# Altium integrated library ST Microcontroller 32-Bit STR9.IntLib: 18 symbols
Pins are listed as number, name and electrical type; pins without a type are passive.

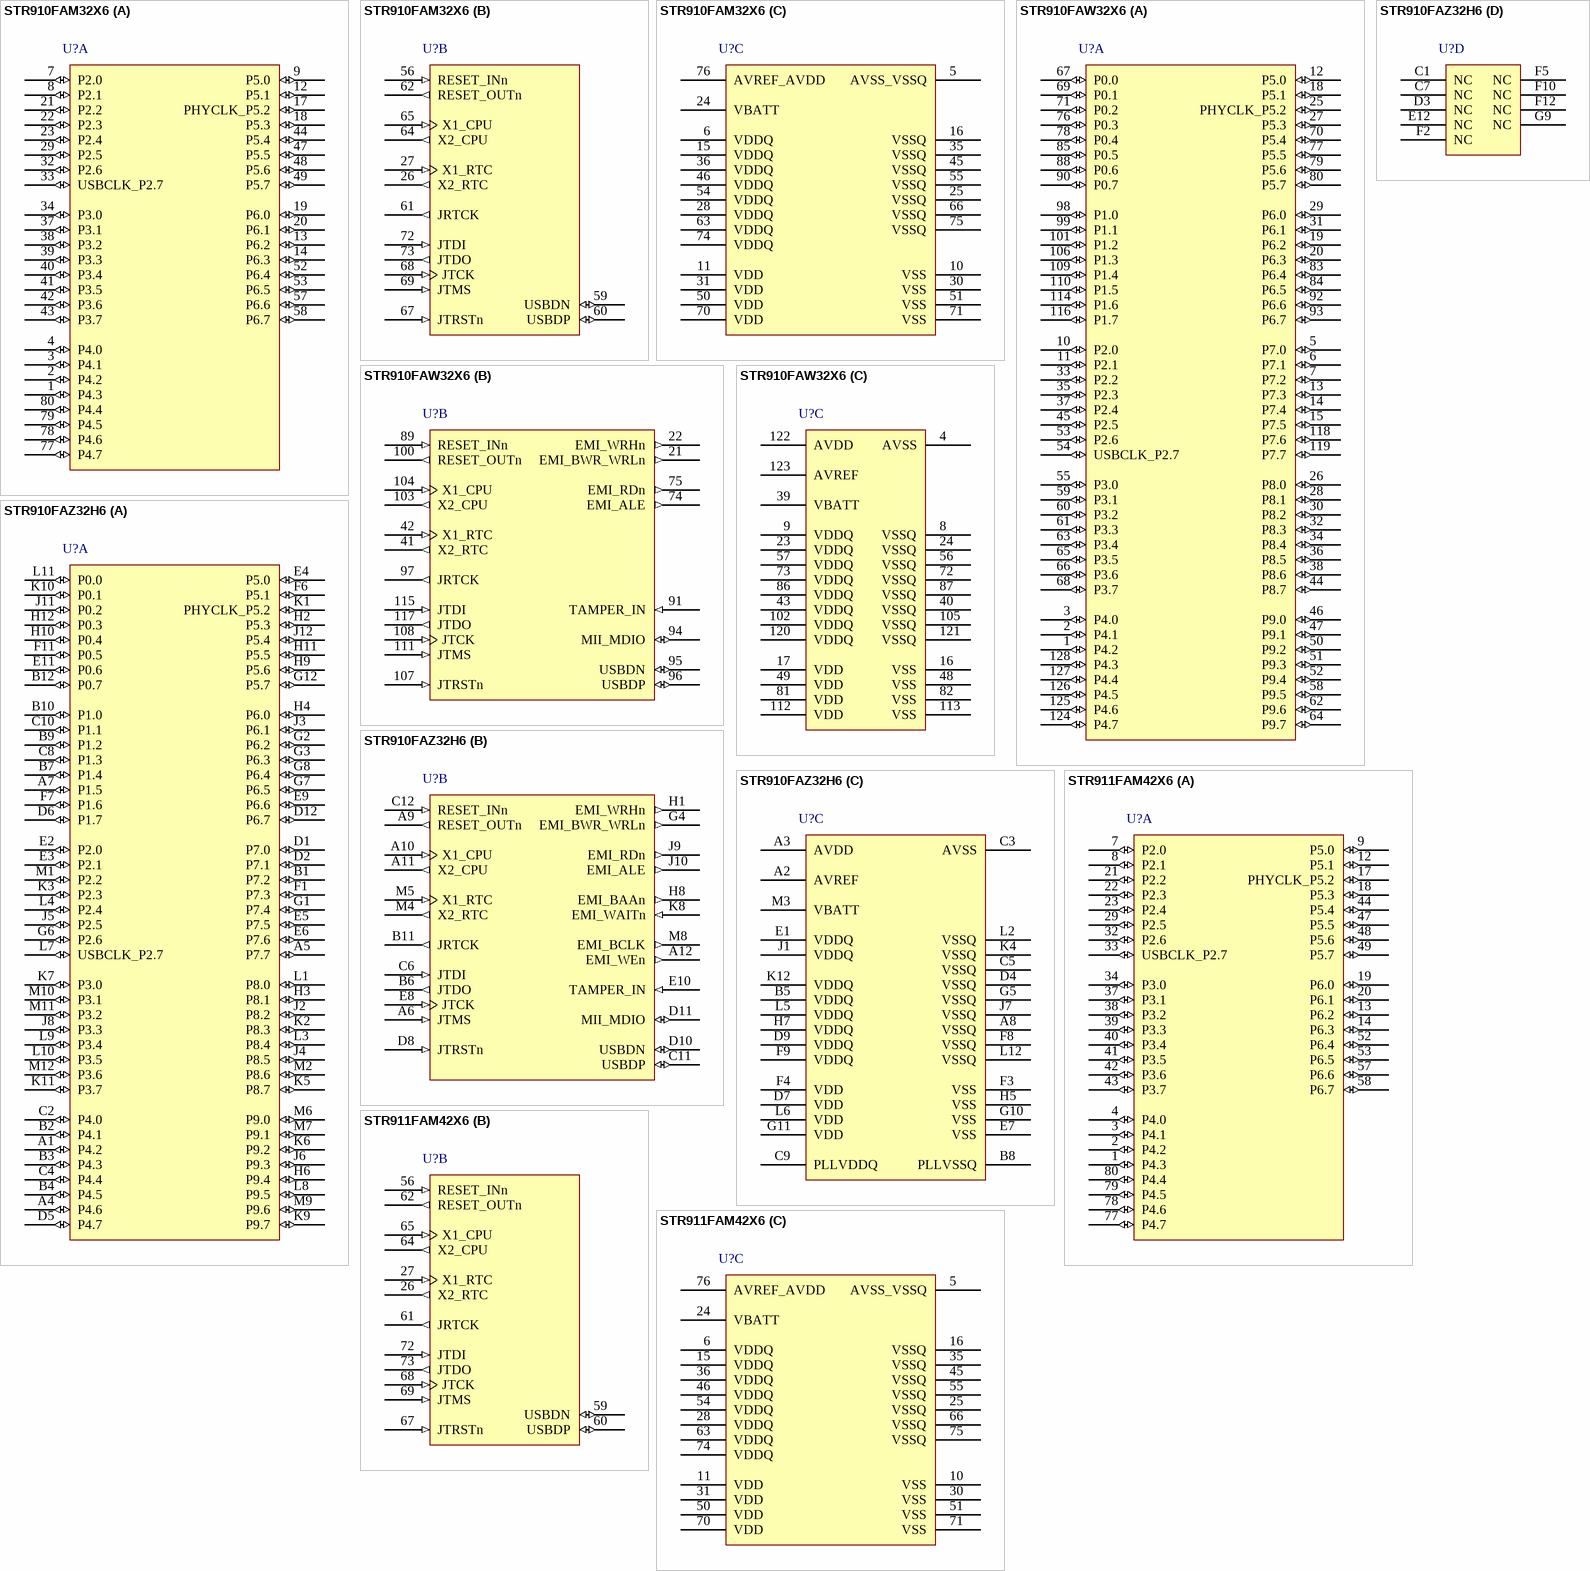
[diagram p0: symbols STR910FAM32X6 to STR911FAM42X6]

## STR910FAM32X6
designator U?
ARM966E-S 16/32-Bit Flash MCU with 256 + 32 Kbytes Flash, 64 Kbytes RAM, 100-pin LQFP, Industrial Temperature; Published: 30-May-2008; DatasheetVersion: rev2, Nov-2007; PackageVersion: Apr-2008; PackageReference: LQFP80; Publisher: Altium Limited; PackageDescription: 80-Pin Low-Profile Quad Flat Pack, 12 x 12 mm Body, 0.5 mm Pitch (LQFP80); ComponentLink1Description: Manufacturer Link; ComponentLink1URL: http://www.st.com/mcu/inchtml-pages-str9.html; ComponentLink2Description: Datasheet; ComponentLink2URL: http://www.st.com/stonline/products/literature/ds/13495.pdf
footprint LQFP80_N (Thin QFP, 80-Leads, Body 12x12mm, Pitch 0.5mm, IPC Medium Density)
footprint LQFP80_L (Thin QFP, 80-Leads, Body 12x12mm, Pitch 0.5mm, IPC High Density)
footprint LQFP80_M (Thin QFP, 80-Leads, Body 12x12mm, Pitch 0.5mm, IPC Low Density)
part A pins: 1 P4.3 (io), 2 P4.2 (io), 3 P4.1 (io), 4 P4.0 (io), 7 P2.0 (io), 8 P2.1 (io), 9 P5.0 (io), 12 P5.1 (io), 13 P6.2 (io), 14 P6.3 (io), 17 PHYCLK_P5.2 (io), 18 P5.3 (io), 19 P6.0 (io), 20 P6.1 (io), 21 P2.2 (io), 22 P2.3 (io), 23 P2.4 (io), 29 P2.5 (io), 32 P2.6 (io), 33 USBCLK_P2.7 (io), 34 P3.0 (io), 37 P3.1 (io), 38 P3.2 (io), 39 P3.3 (io), 40 P3.4 (io), 41 P3.5 (io), 42 P3.6 (io), 43 P3.7 (io), 44 P5.4 (io), 47 P5.5 (io), 48 P5.6 (io), 49 P5.7 (io), 52 P6.4 (io), 53 P6.5 (io), 57 P6.6 (io), 58 P6.7 (io), 77 P4.7 (io), 78 P4.6 (io), 79 P4.5 (io), 80 P4.4 (io)
part B pins: 26 X2_RTC (out), 27 X1_RTC (in), 56 RESET_INn (in), 59 USBDN (io), 60 USBDP (io), 61 JRTCK (out), 62 RESET_OUTn (out), 64 X2_CPU (out), 65 X1_CPU (in), 67 JTRSTn (in), 68 JTCK (in), 69 JTMS (in), 72 JTDI (in), 73 JTDO (out)
part C pins: 5 AVSS_VSSQ (power), 6 VDDQ (power), 10 VSS (power), 11 VDD (power), 15 VDDQ (power), 16 VSSQ (power), 24 VBATT (power), 25 VSSQ (power), 28 VDDQ (power), 30 VSS (power), 31 VDD (power), 35 VSSQ (power), 36 VDDQ (power), 45 VSSQ (power), 46 VDDQ (power), 50 VDD (power), 51 VSS (power), 54 VDDQ (power), 55 VSSQ (power), 63 VDDQ (power), 66 VSSQ (power), 70 VDD (power), 71 VSS (power), 74 VDDQ (power), 75 VSSQ (power), 76 AVREF_AVDD (power)

## STR910FAW32X6
designator U?
ARM966E-S 16/32-Bit Flash MCU with 256 + 32 Kbytes Flash, 64 Kbytes RAM, 100-pin LQFP, Industrial Temperature; Published: 30-May-2008; DatasheetVersion: rev2, Nov-2007; PackageVersion: Apr-2008; PackageReference: LQFP128; Publisher: Altium Limited; PackageDescription: 128-Pin Low Profile Quad Flat Pack, 14 x 14 x 1.6 mm Body (LQFP128); ComponentLink1Description: Manufacturer Link; ComponentLink1URL: http://www.st.com/mcu/inchtml-pages-str9.html; ComponentLink2Description: Datasheet; ComponentLink2URL: http://www.st.com/stonline/products/literature/ds/13495.pdf
footprint LQFP128_N (Thin QFP, 128-Leads, Body 14x14mm, Pitch 0.4mm, IPC Medium Density)
footprint LQFP128_L (Thin QFP, 128-Leads, Body 14x14mm, Pitch 0.4mm, IPC High Density)
footprint LQFP128_M (Thin QFP, 128-Leads, Body 14x14mm, Pitch 0.4mm, IPC Low Density)
part A pins: 1 P4.2 (io), 2 P4.1 (io), 3 P4.0 (io), 5 P7.0 (io), 6 P7.1 (io), 7 P7.2 (io), 10 P2.0 (io), 11 P2.1 (io), 12 P5.0 (io), 13 P7.3 (io), 14 P7.4 (io), 15 P7.5 (io), 18 P5.1 (io), 19 P6.2 (io), 20 P6.3 (io), 25 PHYCLK_P5.2 (io), 26 P8.0 (io), 27 P5.3 (io), 28 P8.1 (io), 29 P6.0 (io), 30 P8.2 (io), 31 P6.1 (io), 32 P8.3 (io), 33 P2.2 (io), 34 P8.4 (io), 35 P2.3 (io), 36 P8.5 (io), 37 P2.4 (io), 38 P8.6 (io), 44 P8.7 (io), 45 P2.5 (io), 46 P9.0 (io), 47 P9.1 (io), 50 P9.2 (io), 51 P9.3 (io), 52 P9.4 (io), 53 P2.6 (io), 54 USBCLK_P2.7 (io), 55 P3.0 (io), 58 P9.5 (io), 59 P3.1 (io), 60 P3.2 (io), 61 P3.3 (io), 62 P9.6 (io), 63 P3.4 (io), 64 P9.7 (io), 65 P3.5 (io), 66 P3.6 (io), 67 P0.0 (io), 68 P3.7 (io), 69 P0.1 (io), 70 P5.4 (io), 71 P0.2 (io), 76 P0.3 (io), 77 P5.5 (io), 78 P0.4 (io), 79 P5.6 (io), 80 P5.7 (io), 83 P6.4 (io), 84 P6.5 (io), 85 P0.5 (io), 88 P0.6 (io), 90 P0.7 (io), 92 P6.6 (io), 93 P6.7 (io), 98 P1.0 (io), 99 P1.1 (io), 101 P1.2 (io), 106 P1.3 (io), 109 P1.4 (io), 110 P1.5 (io), 114 P1.6 (io), 116 P1.7 (io), 118 P7.6 (io), 119 P7.7 (io), 124 P4.7 (io), 125 P4.6 (io), 126 P4.5 (io), 127 P4.4 (io), 128 P4.3 (io)
part B pins: 21 EMI_BWR_WRLn (out), 22 EMI_WRHn (out), 41 X2_RTC (out), 42 X1_RTC (in), 74 EMI_ALE (out), 75 EMI_RDn (out), 89 RESET_INn (in), 91 TAMPER_IN (in), 94 MII_MDIO (io), 95 USBDN (io), 96 USBDP (io), 97 JRTCK (out), 100 RESET_OUTn (out), 103 X2_CPU (out), 104 X1_CPU (in), 107 JTRSTn (in), 108 JTCK (in), 111 JTMS (in), 115 JTDI (in), 117 JTDO (out)
part C pins: 4 AVSS (power), 8 VSSQ (power), 9 VDDQ (power), 16 VSS (power), 17 VDD (power), 23 VDDQ (power), 24 VSSQ (power), 39 VBATT (power), 40 VSSQ (power), 43 VDDQ (power), 48 VSS (power), 49 VDD (power), 56 VSSQ (power), 57 VDDQ (power), 72 VSSQ (power), 73 VDDQ (power), 81 VDD (power), 82 VSS (power), 86 VDDQ (power), 87 VSSQ (power), 102 VDDQ (power), 105 VSSQ (power), 112 VDD (power), 113 VSS (power), 120 VDDQ (power), 121 VSSQ (power), 122 AVDD (power), 123 AVREF (power)

## STR910FAZ32H6
designator U?
ARM966E-S 16/32-Bit Flash MCU with 256 + 32 Kbytes Flash, 64 Kbytes RAM, 100-pin LQFP, Industrial Temperature; Published: 30-May-2008; DatasheetVersion: rev2, Nov-2007; PackageVersion: Apr-2008; PackageReference: LFBGA144; Publisher: Altium Limited; PackageDescription: 144-Ball Low Profile Fine Pitch BGA, 10 x 10 x 1.7 mm Body, 0.8 mm Pitch (LFBGA144); ComponentLink1Description: Manufacturer Link; ComponentLink1URL: http://www.st.com/mcu/inchtml-pages-str9.html; ComponentLink2Description: Datasheet; ComponentLink2URL: http://www.st.com/stonline/products/literature/ds/13495.pdf
footprint LFBGA144 (BGA, 144-Leads, Body 10x10mm, Pitch 0.8mm)
part A pins: A1 P4.2 (io), A4 P4.6 (io), A5 P7.7 (io), A7 P1.5 (io), B1 P7.2 (io), B2 P4.1 (io), B3 P4.3 (io), B4 P4.5 (io), B7 P1.4 (io), B9 P1.2 (io), B10 P1.0 (io), B12 P0.7 (io), C2 P4.0 (io), C4 P4.4 (io), C8 P1.3 (io), C10 P1.1 (io), D1 P7.0 (io), D2 P7.1 (io), D5 P4.7 (io), D6 P1.7 (io), D12 P6.7 (io), E2 P2.0 (io), E3 P2.1 (io), E4 P5.0 (io), E5 P7.5 (io), E6 P7.6 (io), E9 P6.6 (io), E11 P0.6 (io), F1 P7.3 (io), F6 P5.1 (io), F7 P1.6 (io), F11 P0.5 (io), G1 P7.4 (io), G2 P6.2 (io), G3 P6.3 (io), G6 P2.6 (io), G7 P6.5 (io), G8 P6.4 (io), G12 P5.7 (io), H2 P5.3 (io), H3 P8.1 (io), H4 P6.0 (io), H6 P9.4 (io), H9 P5.6 (io), H10 P0.4 (io), H11 P5.5 (io), H12 P0.3 (io), J2 P8.2 (io), J3 P6.1 (io), J4 P8.5 (io), J5 P2.5 (io), J6 P9.3 (io), J8 P3.3 (io), J11 P0.2 (io), J12 P5.4 (io), K1 PHYCLK_P5.2 (io), K2 P8.3 (io), K3 P2.3 (io), K5 P8.7 (io), K6 P9.2 (io), K7 P3.0 (io), K9 P9.7 (io), K10 P0.1 (io), K11 P3.7 (io), L1 P8.0 (io), L3 P8.4 (io), L4 P2.4 (io), L7 USBCLK_P2.7 (io), L8 P9.5 (io), L9 P3.4 (io), L10 P3.5 (io), L11 P0.0 (io), M1 P2.2 (io), M2 P8.6 (io), M6 P9.0 (io), M7 P9.1 (io), M9 P9.6 (io), M10 P3.1 (io), M11 P3.2 (io), M12 P3.6 (io)
part B pins: A6 JTMS (in), A9 RESET_OUTn (out), A10 X1_CPU (in), A11 X2_CPU (out), A12 EMI_WEn (out), B6 JTDO (out), B11 JRTCK (out), C6 JTDI (in), C11 USBDP (io), C12 RESET_INn (in), D8 JTRSTn (in), D10 USBDN (io), D11 MII_MDIO (io), E8 JTCK (in), E10 TAMPER_IN (in), G4 EMI_BWR_WRLn (out), H1 EMI_WRHn (out), H8 EMI_BAAn (out), J9 EMI_RDn (out), J10 EMI_ALE (out), K8 EMI_WAITn (in), M4 X2_RTC (out), M5 X1_RTC (in), M8 EMI_BCLK (out)
part C pins: A2 AVREF (power), A3 AVDD (power), A8 VSSQ (power), B5 VDDQ (power), B8 PLLVSSQ (power), C3 AVSS (power), C5 VSSQ (power), C9 PLLVDDQ (power), D4 VSSQ (power), D7 VDD (power), D9 VDDQ (power), E1 VDDQ (power), E7 VSS (power), F3 VSS (power), F4 VDD (power), F8 VSSQ (power), F9 VDDQ (power), G5 VSSQ (power), G10 VSS (power), G11 VDD (power), H5 VSS (power), H7 VDDQ (power), J1 VDDQ (power), J7 VSSQ (power), K4 VSSQ (power), K12 VDDQ (power), L2 VSSQ (power), L5 VDDQ (power), L6 VDD (power), L12 VSSQ (power), M3 VBATT (power)
part D pins: C1 NC, C7 NC, D3 NC, E12 NC, F2 NC, F5 NC, F10 NC, F12 NC, G9 NC

## STR911FAM42X6
designator U?
ARM966E-S 16/32-Bit Flash MCU with 256 + 32 Kbytes Flash, 96 Kbytes RAM, 100-pin LQFP, Industrial Temperature; Published: 30-May-2008; DatasheetVersion: rev2, Nov-2007; PackageVersion: Apr-2008; PackageReference: LQFP80; Publisher: Altium Limited; PackageDescription: 80-Pin Low-Profile Quad Flat Pack, 12 x 12 mm Body, 0.5 mm Pitch (LQFP80); ComponentLink1Description: Manufacturer Link; ComponentLink1URL: http://www.st.com/mcu/inchtml-pages-str9.html; ComponentLink2Description: Datasheet; ComponentLink2URL: http://www.st.com/stonline/products/literature/ds/13495.pdf
footprint LQFP80_N (Thin QFP, 80-Leads, Body 12x12mm, Pitch 0.5mm, IPC Medium Density)
footprint LQFP80_L (Thin QFP, 80-Leads, Body 12x12mm, Pitch 0.5mm, IPC High Density)
footprint LQFP80_M (Thin QFP, 80-Leads, Body 12x12mm, Pitch 0.5mm, IPC Low Density)
part A pins: 1 P4.3 (io), 2 P4.2 (io), 3 P4.1 (io), 4 P4.0 (io), 7 P2.0 (io), 8 P2.1 (io), 9 P5.0 (io), 12 P5.1 (io), 13 P6.2 (io), 14 P6.3 (io), 17 PHYCLK_P5.2 (io), 18 P5.3 (io), 19 P6.0 (io), 20 P6.1 (io), 21 P2.2 (io), 22 P2.3 (io), 23 P2.4 (io), 29 P2.5 (io), 32 P2.6 (io), 33 USBCLK_P2.7 (io), 34 P3.0 (io), 37 P3.1 (io), 38 P3.2 (io), 39 P3.3 (io), 40 P3.4 (io), 41 P3.5 (io), 42 P3.6 (io), 43 P3.7 (io), 44 P5.4 (io), 47 P5.5 (io), 48 P5.6 (io), 49 P5.7 (io), 52 P6.4 (io), 53 P6.5 (io), 57 P6.6 (io), 58 P6.7 (io), 77 P4.7 (io), 78 P4.6 (io), 79 P4.5 (io), 80 P4.4 (io)
part B pins: 26 X2_RTC (out), 27 X1_RTC (in), 56 RESET_INn (in), 59 USBDN (io), 60 USBDP (io), 61 JRTCK (out), 62 RESET_OUTn (out), 64 X2_CPU (out), 65 X1_CPU (in), 67 JTRSTn (in), 68 JTCK (in), 69 JTMS (in), 72 JTDI (in), 73 JTDO (out)
part C pins: 5 AVSS_VSSQ (power), 6 VDDQ (power), 10 VSS (power), 11 VDD (power), 15 VDDQ (power), 16 VSSQ (power), 24 VBATT (power), 25 VSSQ (power), 28 VDDQ (power), 30 VSS (power), 31 VDD (power), 35 VSSQ (power), 36 VDDQ (power), 45 VSSQ (power), 46 VDDQ (power), 50 VDD (power), 51 VSS (power), 54 VDDQ (power), 55 VSSQ (power), 63 VDDQ (power), 66 VSSQ (power), 70 VDD (power), 71 VSS (power), 74 VDDQ (power), 75 VSSQ (power), 76 AVREF_AVDD (power)

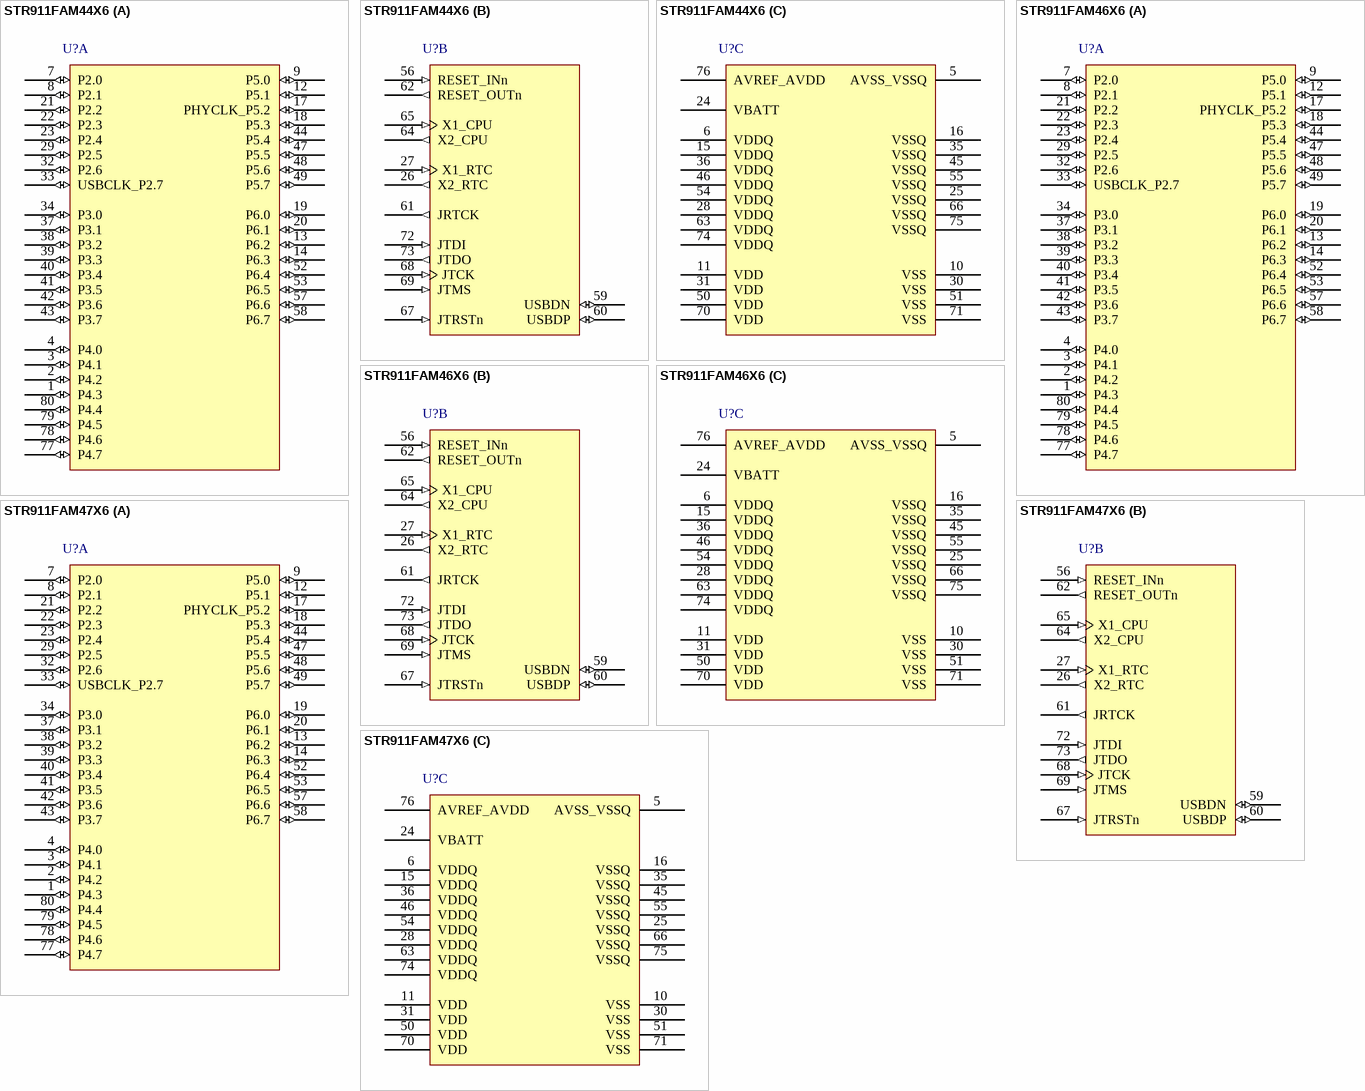
[diagram p1: symbols STR911FAM44X6 to STR911FAM47X6]

## STR911FAM44X6
designator U?
ARM966E-S 16/32-Bit Flash MCU with 512 + 32 Kbytes Flash, 96 Kbytes RAM, 100-pin LQFP, Industrial Temperature; Published: 30-May-2008; DatasheetVersion: rev2, Nov-2007; PackageVersion: Apr-2008; PackageReference: LQFP80; Publisher: Altium Limited; PackageDescription: 80-Pin Low-Profile Quad Flat Pack, 12 x 12 mm Body, 0.5 mm Pitch (LQFP80); ComponentLink1Description: Manufacturer Link; ComponentLink1URL: http://www.st.com/mcu/inchtml-pages-str9.html; ComponentLink2Description: Datasheet; ComponentLink2URL: http://www.st.com/stonline/products/literature/ds/13495.pdf
footprint LQFP80_N (Thin QFP, 80-Leads, Body 12x12mm, Pitch 0.5mm, IPC Medium Density)
footprint LQFP80_L (Thin QFP, 80-Leads, Body 12x12mm, Pitch 0.5mm, IPC High Density)
footprint LQFP80_M (Thin QFP, 80-Leads, Body 12x12mm, Pitch 0.5mm, IPC Low Density)
part A pins: 1 P4.3 (io), 2 P4.2 (io), 3 P4.1 (io), 4 P4.0 (io), 7 P2.0 (io), 8 P2.1 (io), 9 P5.0 (io), 12 P5.1 (io), 13 P6.2 (io), 14 P6.3 (io), 17 PHYCLK_P5.2 (io), 18 P5.3 (io), 19 P6.0 (io), 20 P6.1 (io), 21 P2.2 (io), 22 P2.3 (io), 23 P2.4 (io), 29 P2.5 (io), 32 P2.6 (io), 33 USBCLK_P2.7 (io), 34 P3.0 (io), 37 P3.1 (io), 38 P3.2 (io), 39 P3.3 (io), 40 P3.4 (io), 41 P3.5 (io), 42 P3.6 (io), 43 P3.7 (io), 44 P5.4 (io), 47 P5.5 (io), 48 P5.6 (io), 49 P5.7 (io), 52 P6.4 (io), 53 P6.5 (io), 57 P6.6 (io), 58 P6.7 (io), 77 P4.7 (io), 78 P4.6 (io), 79 P4.5 (io), 80 P4.4 (io)
part B pins: 26 X2_RTC (out), 27 X1_RTC (in), 56 RESET_INn (in), 59 USBDN (io), 60 USBDP (io), 61 JRTCK (out), 62 RESET_OUTn (out), 64 X2_CPU (out), 65 X1_CPU (in), 67 JTRSTn (in), 68 JTCK (in), 69 JTMS (in), 72 JTDI (in), 73 JTDO (out)
part C pins: 5 AVSS_VSSQ (power), 6 VDDQ (power), 10 VSS (power), 11 VDD (power), 15 VDDQ (power), 16 VSSQ (power), 24 VBATT (power), 25 VSSQ (power), 28 VDDQ (power), 30 VSS (power), 31 VDD (power), 35 VSSQ (power), 36 VDDQ (power), 45 VSSQ (power), 46 VDDQ (power), 50 VDD (power), 51 VSS (power), 54 VDDQ (power), 55 VSSQ (power), 63 VDDQ (power), 66 VSSQ (power), 70 VDD (power), 71 VSS (power), 74 VDDQ (power), 75 VSSQ (power), 76 AVREF_AVDD (power)

## STR911FAM46X6
designator U?
ARM966E-S 16/32-Bit Flash MCU with 1024 + 128 Kbytes Flash, 96 Kbytes RAM, 100-pin LQFP, Industrial Temperature; Published: 30-May-2008; DatasheetVersion: rev2, Apr-2008; PackageVersion: Apr-2008; PackageReference: LQFP80; Publisher: Altium Limited; PackageDescription: 80-Pin Low-Profile Quad Flat Pack, 12 x 12 mm Body, 0.5 mm Pitch (LQFP80); ComponentLink1Description: Manufacturer Link; ComponentLink1URL: http://www.st.com/mcu/inchtml-pages-str9.html; ComponentLink2Description: Datasheet; ComponentLink2URL: http://www.st.com/stonline/products/literature/ds/14195.pdf
footprint LQFP80_N (Thin QFP, 80-Leads, Body 12x12mm, Pitch 0.5mm, IPC Medium Density)
footprint LQFP80_L (Thin QFP, 80-Leads, Body 12x12mm, Pitch 0.5mm, IPC High Density)
footprint LQFP80_M (Thin QFP, 80-Leads, Body 12x12mm, Pitch 0.5mm, IPC Low Density)
part A pins: 1 P4.3 (io), 2 P4.2 (io), 3 P4.1 (io), 4 P4.0 (io), 7 P2.0 (io), 8 P2.1 (io), 9 P5.0 (io), 12 P5.1 (io), 13 P6.2 (io), 14 P6.3 (io), 17 PHYCLK_P5.2 (io), 18 P5.3 (io), 19 P6.0 (io), 20 P6.1 (io), 21 P2.2 (io), 22 P2.3 (io), 23 P2.4 (io), 29 P2.5 (io), 32 P2.6 (io), 33 USBCLK_P2.7 (io), 34 P3.0 (io), 37 P3.1 (io), 38 P3.2 (io), 39 P3.3 (io), 40 P3.4 (io), 41 P3.5 (io), 42 P3.6 (io), 43 P3.7 (io), 44 P5.4 (io), 47 P5.5 (io), 48 P5.6 (io), 49 P5.7 (io), 52 P6.4 (io), 53 P6.5 (io), 57 P6.6 (io), 58 P6.7 (io), 77 P4.7 (io), 78 P4.6 (io), 79 P4.5 (io), 80 P4.4 (io)
part B pins: 26 X2_RTC (out), 27 X1_RTC (in), 56 RESET_INn (in), 59 USBDN (io), 60 USBDP (io), 61 JRTCK (out), 62 RESET_OUTn (out), 64 X2_CPU (out), 65 X1_CPU (in), 67 JTRSTn (in), 68 JTCK (in), 69 JTMS (in), 72 JTDI (in), 73 JTDO (out)
part C pins: 5 AVSS_VSSQ (power), 6 VDDQ (power), 10 VSS (power), 11 VDD (power), 15 VDDQ (power), 16 VSSQ (power), 24 VBATT (power), 25 VSSQ (power), 28 VDDQ (power), 30 VSS (power), 31 VDD (power), 35 VSSQ (power), 36 VDDQ (power), 45 VSSQ (power), 46 VDDQ (power), 50 VDD (power), 51 VSS (power), 54 VDDQ (power), 55 VSSQ (power), 63 VDDQ (power), 66 VSSQ (power), 70 VDD (power), 71 VSS (power), 74 VDDQ (power), 75 VSSQ (power), 76 AVREF_AVDD (power)

## STR911FAM47X6
designator U?
ARM966E-S 16/32-Bit Flash MCU with 2048 + 128 Kbytes Flash, 96 Kbytes RAM, 100-pin LQFP, Industrial Temperature; Published: 30-May-2008; DatasheetVersion: rev2, Apr-2008; PackageVersion: Apr-2008; PackageReference: LQFP80; Publisher: Altium Limited; PackageDescription: 80-Pin Low-Profile Quad Flat Pack, 12 x 12 mm Body, 0.5 mm Pitch (LQFP80); ComponentLink1Description: Manufacturer Link; ComponentLink1URL: http://www.st.com/mcu/inchtml-pages-str9.html; ComponentLink2Description: Datasheet; ComponentLink2URL: http://www.st.com/stonline/products/literature/ds/14195.pdf
footprint LQFP80_N (Thin QFP, 80-Leads, Body 12x12mm, Pitch 0.5mm, IPC Medium Density)
footprint LQFP80_L (Thin QFP, 80-Leads, Body 12x12mm, Pitch 0.5mm, IPC High Density)
footprint LQFP80_M (Thin QFP, 80-Leads, Body 12x12mm, Pitch 0.5mm, IPC Low Density)
part A pins: 1 P4.3 (io), 2 P4.2 (io), 3 P4.1 (io), 4 P4.0 (io), 7 P2.0 (io), 8 P2.1 (io), 9 P5.0 (io), 12 P5.1 (io), 13 P6.2 (io), 14 P6.3 (io), 17 PHYCLK_P5.2 (io), 18 P5.3 (io), 19 P6.0 (io), 20 P6.1 (io), 21 P2.2 (io), 22 P2.3 (io), 23 P2.4 (io), 29 P2.5 (io), 32 P2.6 (io), 33 USBCLK_P2.7 (io), 34 P3.0 (io), 37 P3.1 (io), 38 P3.2 (io), 39 P3.3 (io), 40 P3.4 (io), 41 P3.5 (io), 42 P3.6 (io), 43 P3.7 (io), 44 P5.4 (io), 47 P5.5 (io), 48 P5.6 (io), 49 P5.7 (io), 52 P6.4 (io), 53 P6.5 (io), 57 P6.6 (io), 58 P6.7 (io), 77 P4.7 (io), 78 P4.6 (io), 79 P4.5 (io), 80 P4.4 (io)
part B pins: 26 X2_RTC (out), 27 X1_RTC (in), 56 RESET_INn (in), 59 USBDN (io), 60 USBDP (io), 61 JRTCK (out), 62 RESET_OUTn (out), 64 X2_CPU (out), 65 X1_CPU (in), 67 JTRSTn (in), 68 JTCK (in), 69 JTMS (in), 72 JTDI (in), 73 JTDO (out)
part C pins: 5 AVSS_VSSQ (power), 6 VDDQ (power), 10 VSS (power), 11 VDD (power), 15 VDDQ (power), 16 VSSQ (power), 24 VBATT (power), 25 VSSQ (power), 28 VDDQ (power), 30 VSS (power), 31 VDD (power), 35 VSSQ (power), 36 VDDQ (power), 45 VSSQ (power), 46 VDDQ (power), 50 VDD (power), 51 VSS (power), 54 VDDQ (power), 55 VSSQ (power), 63 VDDQ (power), 66 VSSQ (power), 70 VDD (power), 71 VSS (power), 74 VDDQ (power), 75 VSSQ (power), 76 AVREF_AVDD (power)

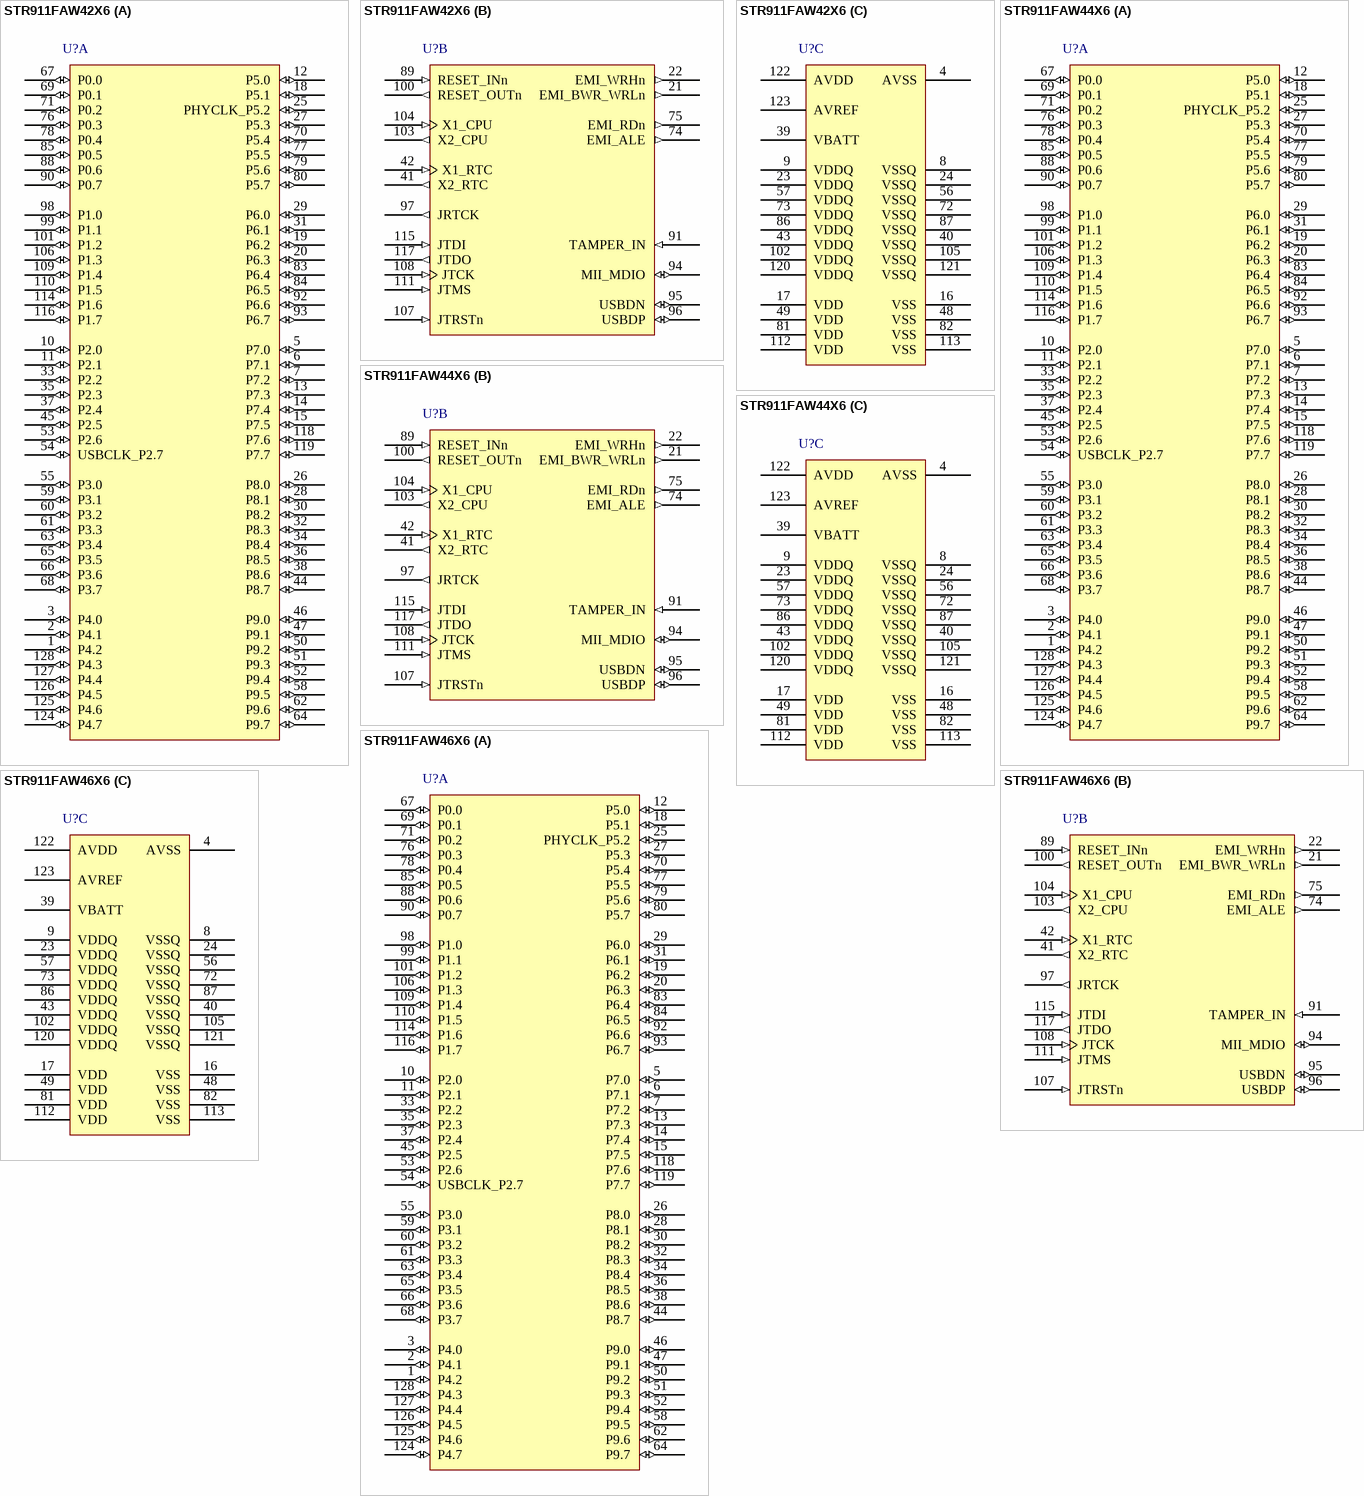
[diagram p2: symbols STR911FAW42X6 to STR911FAW46X6]

## STR911FAW42X6
designator U?
ARM966E-S 16/32-Bit Flash MCU with 256 + 32 Kbytes Flash, 96 Kbytes RAM, 100-pin LQFP, Industrial Temperature; Published: 30-May-2008; DatasheetVersion: rev2, Nov-2007; PackageVersion: Apr-2008; PackageReference: LQFP128; Publisher: Altium Limited; PackageDescription: 128-Pin Low Profile Quad Flat Pack, 14 x 14 x 1.6 mm Body (LQFP128); ComponentLink1Description: Manufacturer Link; ComponentLink1URL: http://www.st.com/mcu/inchtml-pages-str9.html; ComponentLink2Description: Datasheet; ComponentLink2URL: http://www.st.com/stonline/products/literature/ds/13495.pdf
footprint LQFP128_N (Thin QFP, 128-Leads, Body 14x14mm, Pitch 0.4mm, IPC Medium Density)
footprint LQFP128_L (Thin QFP, 128-Leads, Body 14x14mm, Pitch 0.4mm, IPC High Density)
footprint LQFP128_M (Thin QFP, 128-Leads, Body 14x14mm, Pitch 0.4mm, IPC Low Density)
part A pins: 1 P4.2 (io), 2 P4.1 (io), 3 P4.0 (io), 5 P7.0 (io), 6 P7.1 (io), 7 P7.2 (io), 10 P2.0 (io), 11 P2.1 (io), 12 P5.0 (io), 13 P7.3 (io), 14 P7.4 (io), 15 P7.5 (io), 18 P5.1 (io), 19 P6.2 (io), 20 P6.3 (io), 25 PHYCLK_P5.2 (io), 26 P8.0 (io), 27 P5.3 (io), 28 P8.1 (io), 29 P6.0 (io), 30 P8.2 (io), 31 P6.1 (io), 32 P8.3 (io), 33 P2.2 (io), 34 P8.4 (io), 35 P2.3 (io), 36 P8.5 (io), 37 P2.4 (io), 38 P8.6 (io), 44 P8.7 (io), 45 P2.5 (io), 46 P9.0 (io), 47 P9.1 (io), 50 P9.2 (io), 51 P9.3 (io), 52 P9.4 (io), 53 P2.6 (io), 54 USBCLK_P2.7 (io), 55 P3.0 (io), 58 P9.5 (io), 59 P3.1 (io), 60 P3.2 (io), 61 P3.3 (io), 62 P9.6 (io), 63 P3.4 (io), 64 P9.7 (io), 65 P3.5 (io), 66 P3.6 (io), 67 P0.0 (io), 68 P3.7 (io), 69 P0.1 (io), 70 P5.4 (io), 71 P0.2 (io), 76 P0.3 (io), 77 P5.5 (io), 78 P0.4 (io), 79 P5.6 (io), 80 P5.7 (io), 83 P6.4 (io), 84 P6.5 (io), 85 P0.5 (io), 88 P0.6 (io), 90 P0.7 (io), 92 P6.6 (io), 93 P6.7 (io), 98 P1.0 (io), 99 P1.1 (io), 101 P1.2 (io), 106 P1.3 (io), 109 P1.4 (io), 110 P1.5 (io), 114 P1.6 (io), 116 P1.7 (io), 118 P7.6 (io), 119 P7.7 (io), 124 P4.7 (io), 125 P4.6 (io), 126 P4.5 (io), 127 P4.4 (io), 128 P4.3 (io)
part B pins: 21 EMI_BWR_WRLn (out), 22 EMI_WRHn (out), 41 X2_RTC (out), 42 X1_RTC (in), 74 EMI_ALE (out), 75 EMI_RDn (out), 89 RESET_INn (in), 91 TAMPER_IN (in), 94 MII_MDIO (io), 95 USBDN (io), 96 USBDP (io), 97 JRTCK (out), 100 RESET_OUTn (out), 103 X2_CPU (out), 104 X1_CPU (in), 107 JTRSTn (in), 108 JTCK (in), 111 JTMS (in), 115 JTDI (in), 117 JTDO (out)
part C pins: 4 AVSS (power), 8 VSSQ (power), 9 VDDQ (power), 16 VSS (power), 17 VDD (power), 23 VDDQ (power), 24 VSSQ (power), 39 VBATT (power), 40 VSSQ (power), 43 VDDQ (power), 48 VSS (power), 49 VDD (power), 56 VSSQ (power), 57 VDDQ (power), 72 VSSQ (power), 73 VDDQ (power), 81 VDD (power), 82 VSS (power), 86 VDDQ (power), 87 VSSQ (power), 102 VDDQ (power), 105 VSSQ (power), 112 VDD (power), 113 VSS (power), 120 VDDQ (power), 121 VSSQ (power), 122 AVDD (power), 123 AVREF (power)

## STR911FAW44X6
designator U?
ARM966E-S 16/32-Bit Flash MCU with 512 + 32 Kbytes Flash, 96 Kbytes RAM, 100-pin LQFP, Industrial Temperature; Published: 30-May-2008; DatasheetVersion: rev2, Nov-2007; PackageVersion: Apr-2008; PackageReference: LQFP128; Publisher: Altium Limited; PackageDescription: 128-Pin Low Profile Quad Flat Pack, 14 x 14 x 1.6 mm Body (LQFP128); ComponentLink1Description: Manufacturer Link; ComponentLink1URL: http://www.st.com/mcu/inchtml-pages-str9.html; ComponentLink2Description: Datasheet; ComponentLink2URL: http://www.st.com/stonline/products/literature/ds/13495.pdf
footprint LQFP128_N (Thin QFP, 128-Leads, Body 14x14mm, Pitch 0.4mm, IPC Medium Density)
footprint LQFP128_L (Thin QFP, 128-Leads, Body 14x14mm, Pitch 0.4mm, IPC High Density)
footprint LQFP128_M (Thin QFP, 128-Leads, Body 14x14mm, Pitch 0.4mm, IPC Low Density)
part A pins: 1 P4.2 (io), 2 P4.1 (io), 3 P4.0 (io), 5 P7.0 (io), 6 P7.1 (io), 7 P7.2 (io), 10 P2.0 (io), 11 P2.1 (io), 12 P5.0 (io), 13 P7.3 (io), 14 P7.4 (io), 15 P7.5 (io), 18 P5.1 (io), 19 P6.2 (io), 20 P6.3 (io), 25 PHYCLK_P5.2 (io), 26 P8.0 (io), 27 P5.3 (io), 28 P8.1 (io), 29 P6.0 (io), 30 P8.2 (io), 31 P6.1 (io), 32 P8.3 (io), 33 P2.2 (io), 34 P8.4 (io), 35 P2.3 (io), 36 P8.5 (io), 37 P2.4 (io), 38 P8.6 (io), 44 P8.7 (io), 45 P2.5 (io), 46 P9.0 (io), 47 P9.1 (io), 50 P9.2 (io), 51 P9.3 (io), 52 P9.4 (io), 53 P2.6 (io), 54 USBCLK_P2.7 (io), 55 P3.0 (io), 58 P9.5 (io), 59 P3.1 (io), 60 P3.2 (io), 61 P3.3 (io), 62 P9.6 (io), 63 P3.4 (io), 64 P9.7 (io), 65 P3.5 (io), 66 P3.6 (io), 67 P0.0 (io), 68 P3.7 (io), 69 P0.1 (io), 70 P5.4 (io), 71 P0.2 (io), 76 P0.3 (io), 77 P5.5 (io), 78 P0.4 (io), 79 P5.6 (io), 80 P5.7 (io), 83 P6.4 (io), 84 P6.5 (io), 85 P0.5 (io), 88 P0.6 (io), 90 P0.7 (io), 92 P6.6 (io), 93 P6.7 (io), 98 P1.0 (io), 99 P1.1 (io), 101 P1.2 (io), 106 P1.3 (io), 109 P1.4 (io), 110 P1.5 (io), 114 P1.6 (io), 116 P1.7 (io), 118 P7.6 (io), 119 P7.7 (io), 124 P4.7 (io), 125 P4.6 (io), 126 P4.5 (io), 127 P4.4 (io), 128 P4.3 (io)
part B pins: 21 EMI_BWR_WRLn (out), 22 EMI_WRHn (out), 41 X2_RTC (out), 42 X1_RTC (in), 74 EMI_ALE (out), 75 EMI_RDn (out), 89 RESET_INn (in), 91 TAMPER_IN (in), 94 MII_MDIO (io), 95 USBDN (io), 96 USBDP (io), 97 JRTCK (out), 100 RESET_OUTn (out), 103 X2_CPU (out), 104 X1_CPU (in), 107 JTRSTn (in), 108 JTCK (in), 111 JTMS (in), 115 JTDI (in), 117 JTDO (out)
part C pins: 4 AVSS (power), 8 VSSQ (power), 9 VDDQ (power), 16 VSS (power), 17 VDD (power), 23 VDDQ (power), 24 VSSQ (power), 39 VBATT (power), 40 VSSQ (power), 43 VDDQ (power), 48 VSS (power), 49 VDD (power), 56 VSSQ (power), 57 VDDQ (power), 72 VSSQ (power), 73 VDDQ (power), 81 VDD (power), 82 VSS (power), 86 VDDQ (power), 87 VSSQ (power), 102 VDDQ (power), 105 VSSQ (power), 112 VDD (power), 113 VSS (power), 120 VDDQ (power), 121 VSSQ (power), 122 AVDD (power), 123 AVREF (power)

## STR911FAW46X6
designator U?
ARM966E-S 16/32-Bit Flash MCU with 1024 + 128 Kbytes Flash, 96 Kbytes RAM, 100-pin LQFP, Industrial Temperature; Published: 30-May-2008; DatasheetVersion: rev2, Apr-2008; PackageVersion: Apr-2008; PackageReference: LQFP128; Publisher: Altium Limited; PackageDescription: 128-Pin Low Profile Quad Flat Pack, 14 x 14 x 1.6 mm Body (LQFP128); ComponentLink1Description: Manufacturer Link; ComponentLink1URL: http://www.st.com/mcu/inchtml-pages-str9.html; ComponentLink2Description: Datasheet; ComponentLink2URL: http://www.st.com/stonline/products/literature/ds/14195.pdf
footprint LQFP128_N (Thin QFP, 128-Leads, Body 14x14mm, Pitch 0.4mm, IPC Medium Density)
footprint LQFP128_L (Thin QFP, 128-Leads, Body 14x14mm, Pitch 0.4mm, IPC High Density)
footprint LQFP128_M (Thin QFP, 128-Leads, Body 14x14mm, Pitch 0.4mm, IPC Low Density)
part A pins: 1 P4.2 (io), 2 P4.1 (io), 3 P4.0 (io), 5 P7.0 (io), 6 P7.1 (io), 7 P7.2 (io), 10 P2.0 (io), 11 P2.1 (io), 12 P5.0 (io), 13 P7.3 (io), 14 P7.4 (io), 15 P7.5 (io), 18 P5.1 (io), 19 P6.2 (io), 20 P6.3 (io), 25 PHYCLK_P5.2 (io), 26 P8.0 (io), 27 P5.3 (io), 28 P8.1 (io), 29 P6.0 (io), 30 P8.2 (io), 31 P6.1 (io), 32 P8.3 (io), 33 P2.2 (io), 34 P8.4 (io), 35 P2.3 (io), 36 P8.5 (io), 37 P2.4 (io), 38 P8.6 (io), 44 P8.7 (io), 45 P2.5 (io), 46 P9.0 (io), 47 P9.1 (io), 50 P9.2 (io), 51 P9.3 (io), 52 P9.4 (io), 53 P2.6 (io), 54 USBCLK_P2.7 (io), 55 P3.0 (io), 58 P9.5 (io), 59 P3.1 (io), 60 P3.2 (io), 61 P3.3 (io), 62 P9.6 (io), 63 P3.4 (io), 64 P9.7 (io), 65 P3.5 (io), 66 P3.6 (io), 67 P0.0 (io), 68 P3.7 (io), 69 P0.1 (io), 70 P5.4 (io), 71 P0.2 (io), 76 P0.3 (io), 77 P5.5 (io), 78 P0.4 (io), 79 P5.6 (io), 80 P5.7 (io), 83 P6.4 (io), 84 P6.5 (io), 85 P0.5 (io), 88 P0.6 (io), 90 P0.7 (io), 92 P6.6 (io), 93 P6.7 (io), 98 P1.0 (io), 99 P1.1 (io), 101 P1.2 (io), 106 P1.3 (io), 109 P1.4 (io), 110 P1.5 (io), 114 P1.6 (io), 116 P1.7 (io), 118 P7.6 (io), 119 P7.7 (io), 124 P4.7 (io), 125 P4.6 (io), 126 P4.5 (io), 127 P4.4 (io), 128 P4.3 (io)
part B pins: 21 EMI_BWR_WRLn (out), 22 EMI_WRHn (out), 41 X2_RTC (out), 42 X1_RTC (in), 74 EMI_ALE (out), 75 EMI_RDn (out), 89 RESET_INn (in), 91 TAMPER_IN (in), 94 MII_MDIO (io), 95 USBDN (io), 96 USBDP (io), 97 JRTCK (out), 100 RESET_OUTn (out), 103 X2_CPU (out), 104 X1_CPU (in), 107 JTRSTn (in), 108 JTCK (in), 111 JTMS (in), 115 JTDI (in), 117 JTDO (out)
part C pins: 4 AVSS (power), 8 VSSQ (power), 9 VDDQ (power), 16 VSS (power), 17 VDD (power), 23 VDDQ (power), 24 VSSQ (power), 39 VBATT (power), 40 VSSQ (power), 43 VDDQ (power), 48 VSS (power), 49 VDD (power), 56 VSSQ (power), 57 VDDQ (power), 72 VSSQ (power), 73 VDDQ (power), 81 VDD (power), 82 VSS (power), 86 VDDQ (power), 87 VSSQ (power), 102 VDDQ (power), 105 VSSQ (power), 112 VDD (power), 113 VSS (power), 120 VDDQ (power), 121 VSSQ (power), 122 AVDD (power), 123 AVREF (power)

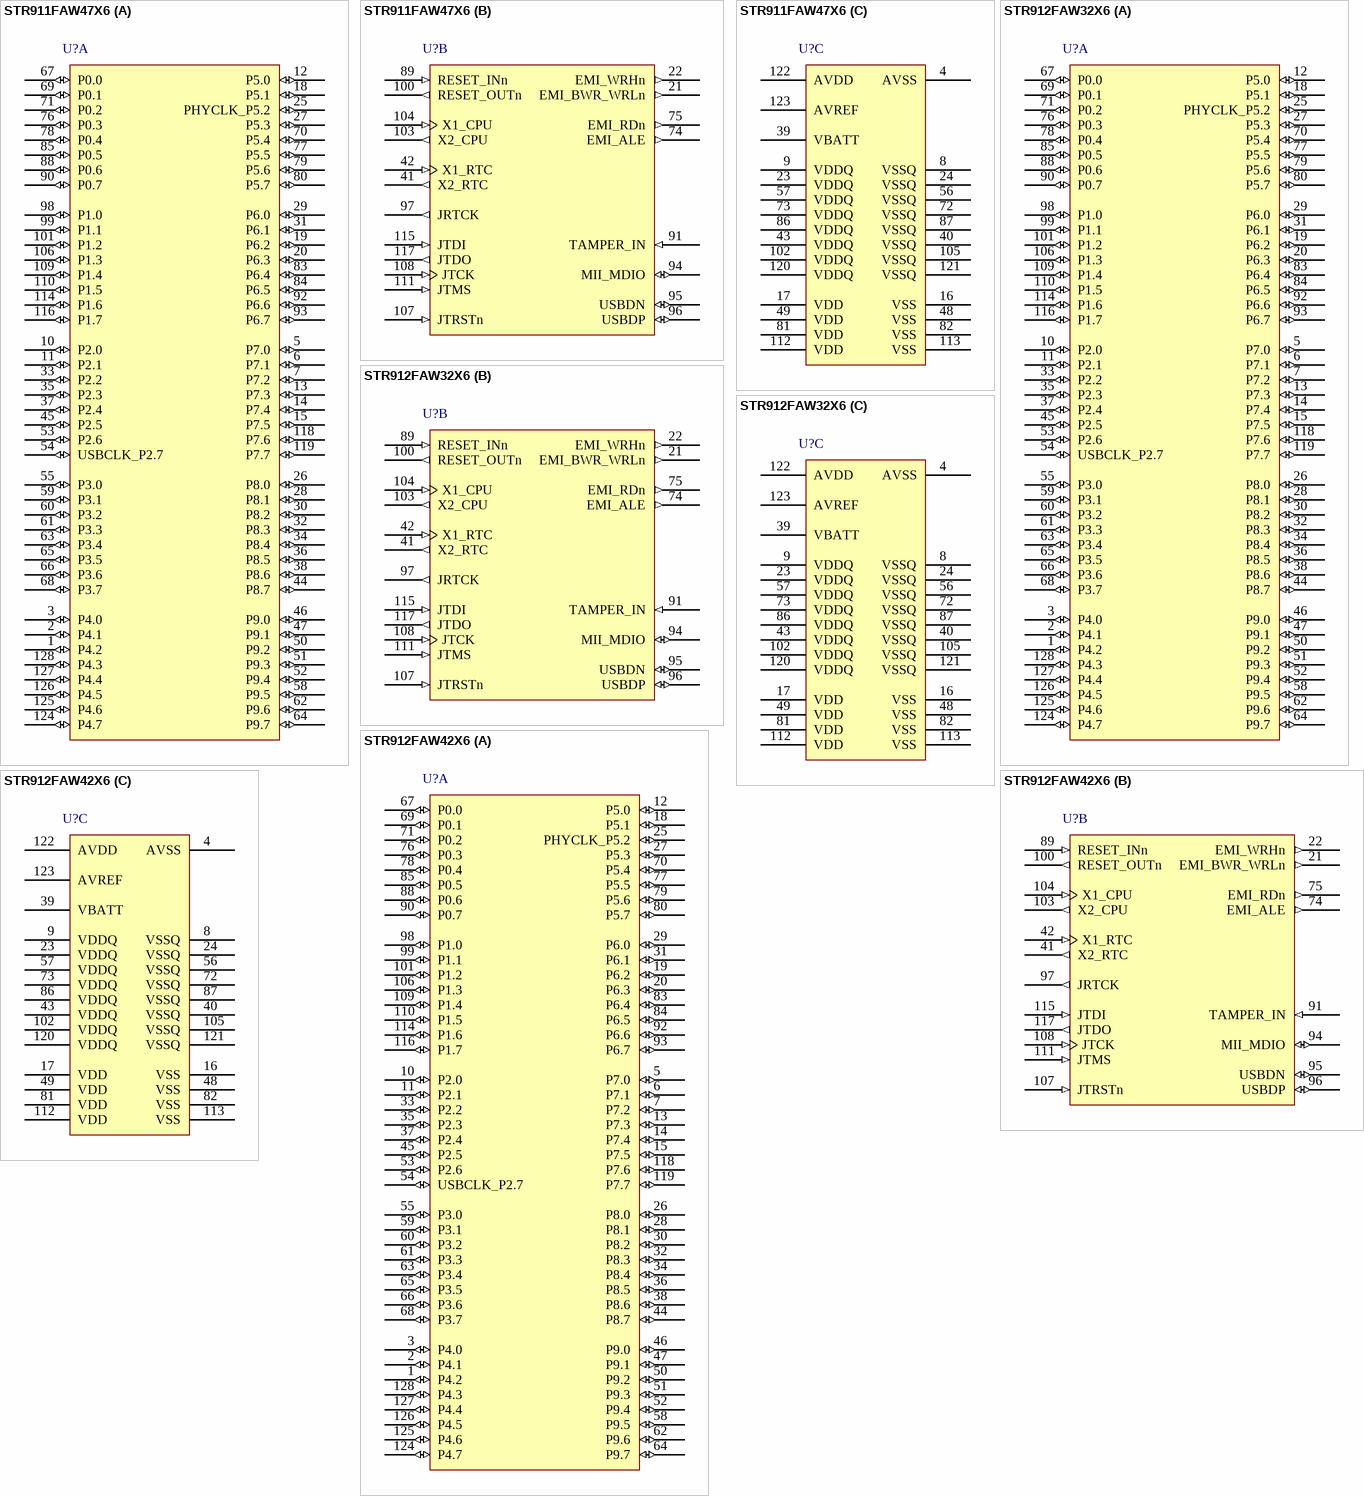
[diagram p3: symbols STR911FAW47X6 to STR912FAW42X6]

## STR911FAW47X6
designator U?
ARM966E-S 16/32-Bit Flash MCU with 2048 + 128 Kbytes Flash, 96 Kbytes RAM, 100-pin LQFP, Industrial Temperature; Published: 30-May-2008; DatasheetVersion: rev2, Apr-2008; PackageVersion: Apr-2008; PackageReference: LQFP128; Publisher: Altium Limited; PackageDescription: 128-Pin Low Profile Quad Flat Pack, 14 x 14 x 1.6 mm Body (LQFP128); ComponentLink1Description: Manufacturer Link; ComponentLink1URL: http://www.st.com/mcu/inchtml-pages-str9.html; ComponentLink2Description: Datasheet; ComponentLink2URL: http://www.st.com/stonline/products/literature/ds/14195.pdf
footprint LQFP128_N (Thin QFP, 128-Leads, Body 14x14mm, Pitch 0.4mm, IPC Medium Density)
footprint LQFP128_L (Thin QFP, 128-Leads, Body 14x14mm, Pitch 0.4mm, IPC High Density)
footprint LQFP128_M (Thin QFP, 128-Leads, Body 14x14mm, Pitch 0.4mm, IPC Low Density)
part A pins: 1 P4.2 (io), 2 P4.1 (io), 3 P4.0 (io), 5 P7.0 (io), 6 P7.1 (io), 7 P7.2 (io), 10 P2.0 (io), 11 P2.1 (io), 12 P5.0 (io), 13 P7.3 (io), 14 P7.4 (io), 15 P7.5 (io), 18 P5.1 (io), 19 P6.2 (io), 20 P6.3 (io), 25 PHYCLK_P5.2 (io), 26 P8.0 (io), 27 P5.3 (io), 28 P8.1 (io), 29 P6.0 (io), 30 P8.2 (io), 31 P6.1 (io), 32 P8.3 (io), 33 P2.2 (io), 34 P8.4 (io), 35 P2.3 (io), 36 P8.5 (io), 37 P2.4 (io), 38 P8.6 (io), 44 P8.7 (io), 45 P2.5 (io), 46 P9.0 (io), 47 P9.1 (io), 50 P9.2 (io), 51 P9.3 (io), 52 P9.4 (io), 53 P2.6 (io), 54 USBCLK_P2.7 (io), 55 P3.0 (io), 58 P9.5 (io), 59 P3.1 (io), 60 P3.2 (io), 61 P3.3 (io), 62 P9.6 (io), 63 P3.4 (io), 64 P9.7 (io), 65 P3.5 (io), 66 P3.6 (io), 67 P0.0 (io), 68 P3.7 (io), 69 P0.1 (io), 70 P5.4 (io), 71 P0.2 (io), 76 P0.3 (io), 77 P5.5 (io), 78 P0.4 (io), 79 P5.6 (io), 80 P5.7 (io), 83 P6.4 (io), 84 P6.5 (io), 85 P0.5 (io), 88 P0.6 (io), 90 P0.7 (io), 92 P6.6 (io), 93 P6.7 (io), 98 P1.0 (io), 99 P1.1 (io), 101 P1.2 (io), 106 P1.3 (io), 109 P1.4 (io), 110 P1.5 (io), 114 P1.6 (io), 116 P1.7 (io), 118 P7.6 (io), 119 P7.7 (io), 124 P4.7 (io), 125 P4.6 (io), 126 P4.5 (io), 127 P4.4 (io), 128 P4.3 (io)
part B pins: 21 EMI_BWR_WRLn (out), 22 EMI_WRHn (out), 41 X2_RTC (out), 42 X1_RTC (in), 74 EMI_ALE (out), 75 EMI_RDn (out), 89 RESET_INn (in), 91 TAMPER_IN (in), 94 MII_MDIO (io), 95 USBDN (io), 96 USBDP (io), 97 JRTCK (out), 100 RESET_OUTn (out), 103 X2_CPU (out), 104 X1_CPU (in), 107 JTRSTn (in), 108 JTCK (in), 111 JTMS (in), 115 JTDI (in), 117 JTDO (out)
part C pins: 4 AVSS (power), 8 VSSQ (power), 9 VDDQ (power), 16 VSS (power), 17 VDD (power), 23 VDDQ (power), 24 VSSQ (power), 39 VBATT (power), 40 VSSQ (power), 43 VDDQ (power), 48 VSS (power), 49 VDD (power), 56 VSSQ (power), 57 VDDQ (power), 72 VSSQ (power), 73 VDDQ (power), 81 VDD (power), 82 VSS (power), 86 VDDQ (power), 87 VSSQ (power), 102 VDDQ (power), 105 VSSQ (power), 112 VDD (power), 113 VSS (power), 120 VDDQ (power), 121 VSSQ (power), 122 AVDD (power), 123 AVREF (power)

## STR912FAW32X6
designator U?
ARM966E-S 16/32-Bit Flash MCU with 256 + 32 Kbytes Flash, 64 Kbytes RAM, 100-pin LQFP, Industrial Temperature; Published: 30-May-2008; DatasheetVersion: rev2, Nov-2007; PackageVersion: Apr-2008; PackageReference: LQFP128; Publisher: Altium Limited; PackageDescription: 128-Pin Low Profile Quad Flat Pack, 14 x 14 x 1.6 mm Body (LQFP128); ComponentLink1Description: Manufacturer Link; ComponentLink1URL: http://www.st.com/mcu/inchtml-pages-str9.html; ComponentLink2Description: Datasheet; ComponentLink2URL: http://www.st.com/stonline/products/literature/ds/13495.pdf
footprint LQFP128_N (Thin QFP, 128-Leads, Body 14x14mm, Pitch 0.4mm, IPC Medium Density)
footprint LQFP128_L (Thin QFP, 128-Leads, Body 14x14mm, Pitch 0.4mm, IPC High Density)
footprint LQFP128_M (Thin QFP, 128-Leads, Body 14x14mm, Pitch 0.4mm, IPC Low Density)
part A pins: 1 P4.2 (io), 2 P4.1 (io), 3 P4.0 (io), 5 P7.0 (io), 6 P7.1 (io), 7 P7.2 (io), 10 P2.0 (io), 11 P2.1 (io), 12 P5.0 (io), 13 P7.3 (io), 14 P7.4 (io), 15 P7.5 (io), 18 P5.1 (io), 19 P6.2 (io), 20 P6.3 (io), 25 PHYCLK_P5.2 (io), 26 P8.0 (io), 27 P5.3 (io), 28 P8.1 (io), 29 P6.0 (io), 30 P8.2 (io), 31 P6.1 (io), 32 P8.3 (io), 33 P2.2 (io), 34 P8.4 (io), 35 P2.3 (io), 36 P8.5 (io), 37 P2.4 (io), 38 P8.6 (io), 44 P8.7 (io), 45 P2.5 (io), 46 P9.0 (io), 47 P9.1 (io), 50 P9.2 (io), 51 P9.3 (io), 52 P9.4 (io), 53 P2.6 (io), 54 USBCLK_P2.7 (io), 55 P3.0 (io), 58 P9.5 (io), 59 P3.1 (io), 60 P3.2 (io), 61 P3.3 (io), 62 P9.6 (io), 63 P3.4 (io), 64 P9.7 (io), 65 P3.5 (io), 66 P3.6 (io), 67 P0.0 (io), 68 P3.7 (io), 69 P0.1 (io), 70 P5.4 (io), 71 P0.2 (io), 76 P0.3 (io), 77 P5.5 (io), 78 P0.4 (io), 79 P5.6 (io), 80 P5.7 (io), 83 P6.4 (io), 84 P6.5 (io), 85 P0.5 (io), 88 P0.6 (io), 90 P0.7 (io), 92 P6.6 (io), 93 P6.7 (io), 98 P1.0 (io), 99 P1.1 (io), 101 P1.2 (io), 106 P1.3 (io), 109 P1.4 (io), 110 P1.5 (io), 114 P1.6 (io), 116 P1.7 (io), 118 P7.6 (io), 119 P7.7 (io), 124 P4.7 (io), 125 P4.6 (io), 126 P4.5 (io), 127 P4.4 (io), 128 P4.3 (io)
part B pins: 21 EMI_BWR_WRLn (out), 22 EMI_WRHn (out), 41 X2_RTC (out), 42 X1_RTC (in), 74 EMI_ALE (out), 75 EMI_RDn (out), 89 RESET_INn (in), 91 TAMPER_IN (in), 94 MII_MDIO (io), 95 USBDN (io), 96 USBDP (io), 97 JRTCK (out), 100 RESET_OUTn (out), 103 X2_CPU (out), 104 X1_CPU (in), 107 JTRSTn (in), 108 JTCK (in), 111 JTMS (in), 115 JTDI (in), 117 JTDO (out)
part C pins: 4 AVSS (power), 8 VSSQ (power), 9 VDDQ (power), 16 VSS (power), 17 VDD (power), 23 VDDQ (power), 24 VSSQ (power), 39 VBATT (power), 40 VSSQ (power), 43 VDDQ (power), 48 VSS (power), 49 VDD (power), 56 VSSQ (power), 57 VDDQ (power), 72 VSSQ (power), 73 VDDQ (power), 81 VDD (power), 82 VSS (power), 86 VDDQ (power), 87 VSSQ (power), 102 VDDQ (power), 105 VSSQ (power), 112 VDD (power), 113 VSS (power), 120 VDDQ (power), 121 VSSQ (power), 122 AVDD (power), 123 AVREF (power)

## STR912FAW42X6
designator U?
ARM966E-S 16/32-Bit Flash MCU with 256 + 32 Kbytes Flash, 96 Kbytes RAM, 100-pin LQFP, Industrial Temperature; Published: 30-May-2008; DatasheetVersion: rev2, Nov-2007; PackageVersion: Apr-2008; PackageReference: LQFP128; Publisher: Altium Limited; PackageDescription: 128-Pin Low Profile Quad Flat Pack, 14 x 14 x 1.6 mm Body (LQFP128); ComponentLink1Description: Manufacturer Link; ComponentLink1URL: http://www.st.com/mcu/inchtml-pages-str9.html; ComponentLink2Description: Datasheet; ComponentLink2URL: http://www.st.com/stonline/products/literature/ds/13495.pdf
footprint LQFP128_N (Thin QFP, 128-Leads, Body 14x14mm, Pitch 0.4mm, IPC Medium Density)
footprint LQFP128_L (Thin QFP, 128-Leads, Body 14x14mm, Pitch 0.4mm, IPC High Density)
footprint LQFP128_M (Thin QFP, 128-Leads, Body 14x14mm, Pitch 0.4mm, IPC Low Density)
part A pins: 1 P4.2 (io), 2 P4.1 (io), 3 P4.0 (io), 5 P7.0 (io), 6 P7.1 (io), 7 P7.2 (io), 10 P2.0 (io), 11 P2.1 (io), 12 P5.0 (io), 13 P7.3 (io), 14 P7.4 (io), 15 P7.5 (io), 18 P5.1 (io), 19 P6.2 (io), 20 P6.3 (io), 25 PHYCLK_P5.2 (io), 26 P8.0 (io), 27 P5.3 (io), 28 P8.1 (io), 29 P6.0 (io), 30 P8.2 (io), 31 P6.1 (io), 32 P8.3 (io), 33 P2.2 (io), 34 P8.4 (io), 35 P2.3 (io), 36 P8.5 (io), 37 P2.4 (io), 38 P8.6 (io), 44 P8.7 (io), 45 P2.5 (io), 46 P9.0 (io), 47 P9.1 (io), 50 P9.2 (io), 51 P9.3 (io), 52 P9.4 (io), 53 P2.6 (io), 54 USBCLK_P2.7 (io), 55 P3.0 (io), 58 P9.5 (io), 59 P3.1 (io), 60 P3.2 (io), 61 P3.3 (io), 62 P9.6 (io), 63 P3.4 (io), 64 P9.7 (io), 65 P3.5 (io), 66 P3.6 (io), 67 P0.0 (io), 68 P3.7 (io), 69 P0.1 (io), 70 P5.4 (io), 71 P0.2 (io), 76 P0.3 (io), 77 P5.5 (io), 78 P0.4 (io), 79 P5.6 (io), 80 P5.7 (io), 83 P6.4 (io), 84 P6.5 (io), 85 P0.5 (io), 88 P0.6 (io), 90 P0.7 (io), 92 P6.6 (io), 93 P6.7 (io), 98 P1.0 (io), 99 P1.1 (io), 101 P1.2 (io), 106 P1.3 (io), 109 P1.4 (io), 110 P1.5 (io), 114 P1.6 (io), 116 P1.7 (io), 118 P7.6 (io), 119 P7.7 (io), 124 P4.7 (io), 125 P4.6 (io), 126 P4.5 (io), 127 P4.4 (io), 128 P4.3 (io)
part B pins: 21 EMI_BWR_WRLn (out), 22 EMI_WRHn (out), 41 X2_RTC (out), 42 X1_RTC (in), 74 EMI_ALE (out), 75 EMI_RDn (out), 89 RESET_INn (in), 91 TAMPER_IN (in), 94 MII_MDIO (io), 95 USBDN (io), 96 USBDP (io), 97 JRTCK (out), 100 RESET_OUTn (out), 103 X2_CPU (out), 104 X1_CPU (in), 107 JTRSTn (in), 108 JTCK (in), 111 JTMS (in), 115 JTDI (in), 117 JTDO (out)
part C pins: 4 AVSS (power), 8 VSSQ (power), 9 VDDQ (power), 16 VSS (power), 17 VDD (power), 23 VDDQ (power), 24 VSSQ (power), 39 VBATT (power), 40 VSSQ (power), 43 VDDQ (power), 48 VSS (power), 49 VDD (power), 56 VSSQ (power), 57 VDDQ (power), 72 VSSQ (power), 73 VDDQ (power), 81 VDD (power), 82 VSS (power), 86 VDDQ (power), 87 VSSQ (power), 102 VDDQ (power), 105 VSSQ (power), 112 VDD (power), 113 VSS (power), 120 VDDQ (power), 121 VSSQ (power), 122 AVDD (power), 123 AVREF (power)

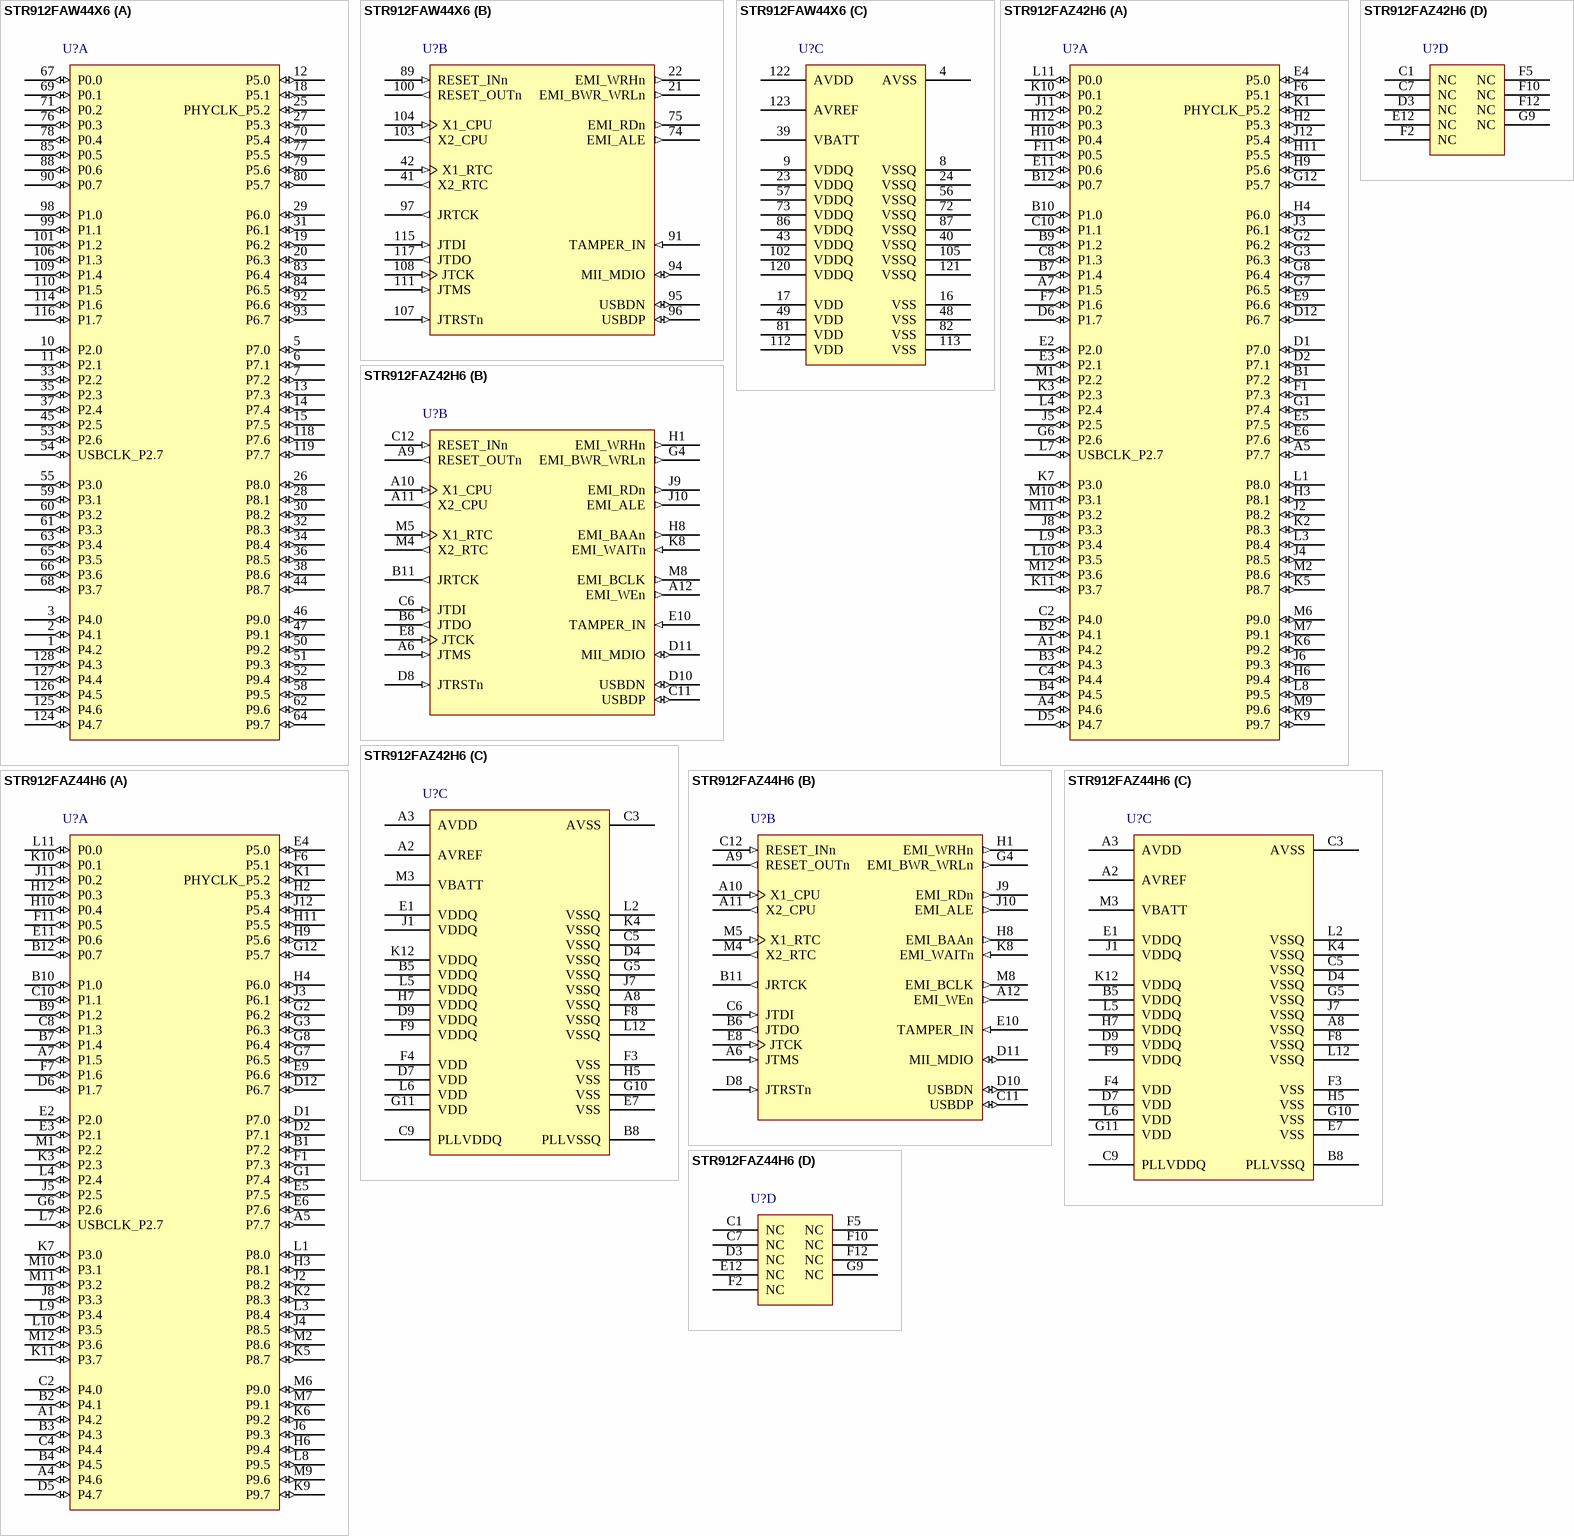
[diagram p4: symbols STR912FAW44X6 to STR912FAZ44H6]

## STR912FAW44X6
designator U?
ARM966E-S 16/32-Bit Flash MCU with 512 + 32 Kbytes Flash, 96 Kbytes RAM, 100-pin LQFP, Industrial Temperature; Published: 30-May-2008; DatasheetVersion: rev2, Nov-2007; PackageVersion: Apr-2008; PackageReference: LQFP128; Publisher: Altium Limited; PackageDescription: 128-Pin Low Profile Quad Flat Pack, 14 x 14 x 1.6 mm Body (LQFP128); ComponentLink1Description: Manufacturer Link; ComponentLink1URL: http://www.st.com/mcu/inchtml-pages-str9.html; ComponentLink2Description: Datasheet; ComponentLink2URL: http://www.st.com/stonline/products/literature/ds/13495.pdf
footprint LQFP128_N (Thin QFP, 128-Leads, Body 14x14mm, Pitch 0.4mm, IPC Medium Density)
footprint LQFP128_L (Thin QFP, 128-Leads, Body 14x14mm, Pitch 0.4mm, IPC High Density)
footprint LQFP128_M (Thin QFP, 128-Leads, Body 14x14mm, Pitch 0.4mm, IPC Low Density)
part A pins: 1 P4.2 (io), 2 P4.1 (io), 3 P4.0 (io), 5 P7.0 (io), 6 P7.1 (io), 7 P7.2 (io), 10 P2.0 (io), 11 P2.1 (io), 12 P5.0 (io), 13 P7.3 (io), 14 P7.4 (io), 15 P7.5 (io), 18 P5.1 (io), 19 P6.2 (io), 20 P6.3 (io), 25 PHYCLK_P5.2 (io), 26 P8.0 (io), 27 P5.3 (io), 28 P8.1 (io), 29 P6.0 (io), 30 P8.2 (io), 31 P6.1 (io), 32 P8.3 (io), 33 P2.2 (io), 34 P8.4 (io), 35 P2.3 (io), 36 P8.5 (io), 37 P2.4 (io), 38 P8.6 (io), 44 P8.7 (io), 45 P2.5 (io), 46 P9.0 (io), 47 P9.1 (io), 50 P9.2 (io), 51 P9.3 (io), 52 P9.4 (io), 53 P2.6 (io), 54 USBCLK_P2.7 (io), 55 P3.0 (io), 58 P9.5 (io), 59 P3.1 (io), 60 P3.2 (io), 61 P3.3 (io), 62 P9.6 (io), 63 P3.4 (io), 64 P9.7 (io), 65 P3.5 (io), 66 P3.6 (io), 67 P0.0 (io), 68 P3.7 (io), 69 P0.1 (io), 70 P5.4 (io), 71 P0.2 (io), 76 P0.3 (io), 77 P5.5 (io), 78 P0.4 (io), 79 P5.6 (io), 80 P5.7 (io), 83 P6.4 (io), 84 P6.5 (io), 85 P0.5 (io), 88 P0.6 (io), 90 P0.7 (io), 92 P6.6 (io), 93 P6.7 (io), 98 P1.0 (io), 99 P1.1 (io), 101 P1.2 (io), 106 P1.3 (io), 109 P1.4 (io), 110 P1.5 (io), 114 P1.6 (io), 116 P1.7 (io), 118 P7.6 (io), 119 P7.7 (io), 124 P4.7 (io), 125 P4.6 (io), 126 P4.5 (io), 127 P4.4 (io), 128 P4.3 (io)
part B pins: 21 EMI_BWR_WRLn (out), 22 EMI_WRHn (out), 41 X2_RTC (out), 42 X1_RTC (in), 74 EMI_ALE (out), 75 EMI_RDn (out), 89 RESET_INn (in), 91 TAMPER_IN (in), 94 MII_MDIO (io), 95 USBDN (io), 96 USBDP (io), 97 JRTCK (out), 100 RESET_OUTn (out), 103 X2_CPU (out), 104 X1_CPU (in), 107 JTRSTn (in), 108 JTCK (in), 111 JTMS (in), 115 JTDI (in), 117 JTDO (out)
part C pins: 4 AVSS (power), 8 VSSQ (power), 9 VDDQ (power), 16 VSS (power), 17 VDD (power), 23 VDDQ (power), 24 VSSQ (power), 39 VBATT (power), 40 VSSQ (power), 43 VDDQ (power), 48 VSS (power), 49 VDD (power), 56 VSSQ (power), 57 VDDQ (power), 72 VSSQ (power), 73 VDDQ (power), 81 VDD (power), 82 VSS (power), 86 VDDQ (power), 87 VSSQ (power), 102 VDDQ (power), 105 VSSQ (power), 112 VDD (power), 113 VSS (power), 120 VDDQ (power), 121 VSSQ (power), 122 AVDD (power), 123 AVREF (power)

## STR912FAZ42H6
designator U?
ARM966E-S 16/32-Bit Flash MCU with 256 + 32 Kbytes Flash, 96 Kbytes RAM, 100-pin LQFP, Industrial Temperature; Published: 30-May-2008; DatasheetVersion: rev2, Nov-2007; PackageVersion: Apr-2008; PackageReference: LFBGA144; Publisher: Altium Limited; PackageDescription: 144-Ball Low Profile Fine Pitch BGA, 10 x 10 x 1.7 mm Body, 0.8 mm Pitch (LFBGA144); ComponentLink1Description: Manufacturer Link; ComponentLink1URL: http://www.st.com/mcu/inchtml-pages-str9.html; ComponentLink2Description: Datasheet; ComponentLink2URL: http://www.st.com/stonline/products/literature/ds/13495.pdf
footprint LFBGA144 (BGA, 144-Leads, Body 10x10mm, Pitch 0.8mm)
part A pins: A1 P4.2 (io), A4 P4.6 (io), A5 P7.7 (io), A7 P1.5 (io), B1 P7.2 (io), B2 P4.1 (io), B3 P4.3 (io), B4 P4.5 (io), B7 P1.4 (io), B9 P1.2 (io), B10 P1.0 (io), B12 P0.7 (io), C2 P4.0 (io), C4 P4.4 (io), C8 P1.3 (io), C10 P1.1 (io), D1 P7.0 (io), D2 P7.1 (io), D5 P4.7 (io), D6 P1.7 (io), D12 P6.7 (io), E2 P2.0 (io), E3 P2.1 (io), E4 P5.0 (io), E5 P7.5 (io), E6 P7.6 (io), E9 P6.6 (io), E11 P0.6 (io), F1 P7.3 (io), F6 P5.1 (io), F7 P1.6 (io), F11 P0.5 (io), G1 P7.4 (io), G2 P6.2 (io), G3 P6.3 (io), G6 P2.6 (io), G7 P6.5 (io), G8 P6.4 (io), G12 P5.7 (io), H2 P5.3 (io), H3 P8.1 (io), H4 P6.0 (io), H6 P9.4 (io), H9 P5.6 (io), H10 P0.4 (io), H11 P5.5 (io), H12 P0.3 (io), J2 P8.2 (io), J3 P6.1 (io), J4 P8.5 (io), J5 P2.5 (io), J6 P9.3 (io), J8 P3.3 (io), J11 P0.2 (io), J12 P5.4 (io), K1 PHYCLK_P5.2 (io), K2 P8.3 (io), K3 P2.3 (io), K5 P8.7 (io), K6 P9.2 (io), K7 P3.0 (io), K9 P9.7 (io), K10 P0.1 (io), K11 P3.7 (io), L1 P8.0 (io), L3 P8.4 (io), L4 P2.4 (io), L7 USBCLK_P2.7 (io), L8 P9.5 (io), L9 P3.4 (io), L10 P3.5 (io), L11 P0.0 (io), M1 P2.2 (io), M2 P8.6 (io), M6 P9.0 (io), M7 P9.1 (io), M9 P9.6 (io), M10 P3.1 (io), M11 P3.2 (io), M12 P3.6 (io)
part B pins: A6 JTMS (in), A9 RESET_OUTn (out), A10 X1_CPU (in), A11 X2_CPU (out), A12 EMI_WEn (out), B6 JTDO (out), B11 JRTCK (out), C6 JTDI (in), C11 USBDP (io), C12 RESET_INn (in), D8 JTRSTn (in), D10 USBDN (io), D11 MII_MDIO (io), E8 JTCK (in), E10 TAMPER_IN (in), G4 EMI_BWR_WRLn (out), H1 EMI_WRHn (out), H8 EMI_BAAn (out), J9 EMI_RDn (out), J10 EMI_ALE (out), K8 EMI_WAITn (in), M4 X2_RTC (out), M5 X1_RTC (in), M8 EMI_BCLK (out)
part C pins: A2 AVREF (power), A3 AVDD (power), A8 VSSQ (power), B5 VDDQ (power), B8 PLLVSSQ (power), C3 AVSS (power), C5 VSSQ (power), C9 PLLVDDQ (power), D4 VSSQ (power), D7 VDD (power), D9 VDDQ (power), E1 VDDQ (power), E7 VSS (power), F3 VSS (power), F4 VDD (power), F8 VSSQ (power), F9 VDDQ (power), G5 VSSQ (power), G10 VSS (power), G11 VDD (power), H5 VSS (power), H7 VDDQ (power), J1 VDDQ (power), J7 VSSQ (power), K4 VSSQ (power), K12 VDDQ (power), L2 VSSQ (power), L5 VDDQ (power), L6 VDD (power), L12 VSSQ (power), M3 VBATT (power)
part D pins: C1 NC, C7 NC, D3 NC, E12 NC, F2 NC, F5 NC, F10 NC, F12 NC, G9 NC

## STR912FAZ44H6
designator U?
ARM966E-S 16/32-Bit Flash MCU with 512 + 32 Kbytes Flash, 96 Kbytes RAM, 100-pin LQFP, Industrial Temperature; Published: 30-May-2008; DatasheetVersion: rev2, Nov-2007; PackageVersion: Apr-2008; PackageReference: LFBGA144; Publisher: Altium Limited; PackageDescription: 144-Ball Low Profile Fine Pitch BGA, 10 x 10 x 1.7 mm Body, 0.8 mm Pitch (LFBGA144); ComponentLink1Description: Manufacturer Link; ComponentLink1URL: http://www.st.com/mcu/inchtml-pages-str9.html; ComponentLink2Description: Datasheet; ComponentLink2URL: http://www.st.com/stonline/products/literature/ds/13495.pdf
footprint LFBGA144 (BGA, 144-Leads, Body 10x10mm, Pitch 0.8mm)
part A pins: A1 P4.2 (io), A4 P4.6 (io), A5 P7.7 (io), A7 P1.5 (io), B1 P7.2 (io), B2 P4.1 (io), B3 P4.3 (io), B4 P4.5 (io), B7 P1.4 (io), B9 P1.2 (io), B10 P1.0 (io), B12 P0.7 (io), C2 P4.0 (io), C4 P4.4 (io), C8 P1.3 (io), C10 P1.1 (io), D1 P7.0 (io), D2 P7.1 (io), D5 P4.7 (io), D6 P1.7 (io), D12 P6.7 (io), E2 P2.0 (io), E3 P2.1 (io), E4 P5.0 (io), E5 P7.5 (io), E6 P7.6 (io), E9 P6.6 (io), E11 P0.6 (io), F1 P7.3 (io), F6 P5.1 (io), F7 P1.6 (io), F11 P0.5 (io), G1 P7.4 (io), G2 P6.2 (io), G3 P6.3 (io), G6 P2.6 (io), G7 P6.5 (io), G8 P6.4 (io), G12 P5.7 (io), H2 P5.3 (io), H3 P8.1 (io), H4 P6.0 (io), H6 P9.4 (io), H9 P5.6 (io), H10 P0.4 (io), H11 P5.5 (io), H12 P0.3 (io), J2 P8.2 (io), J3 P6.1 (io), J4 P8.5 (io), J5 P2.5 (io), J6 P9.3 (io), J8 P3.3 (io), J11 P0.2 (io), J12 P5.4 (io), K1 PHYCLK_P5.2 (io), K2 P8.3 (io), K3 P2.3 (io), K5 P8.7 (io), K6 P9.2 (io), K7 P3.0 (io), K9 P9.7 (io), K10 P0.1 (io), K11 P3.7 (io), L1 P8.0 (io), L3 P8.4 (io), L4 P2.4 (io), L7 USBCLK_P2.7 (io), L8 P9.5 (io), L9 P3.4 (io), L10 P3.5 (io), L11 P0.0 (io), M1 P2.2 (io), M2 P8.6 (io), M6 P9.0 (io), M7 P9.1 (io), M9 P9.6 (io), M10 P3.1 (io), M11 P3.2 (io), M12 P3.6 (io)
part B pins: A6 JTMS (in), A9 RESET_OUTn (out), A10 X1_CPU (in), A11 X2_CPU (out), A12 EMI_WEn (out), B6 JTDO (out), B11 JRTCK (out), C6 JTDI (in), C11 USBDP (io), C12 RESET_INn (in), D8 JTRSTn (in), D10 USBDN (io), D11 MII_MDIO (io), E8 JTCK (in), E10 TAMPER_IN (in), G4 EMI_BWR_WRLn (out), H1 EMI_WRHn (out), H8 EMI_BAAn (out), J9 EMI_RDn (out), J10 EMI_ALE (out), K8 EMI_WAITn (in), M4 X2_RTC (out), M5 X1_RTC (in), M8 EMI_BCLK (out)
part C pins: A2 AVREF (power), A3 AVDD (power), A8 VSSQ (power), B5 VDDQ (power), B8 PLLVSSQ (power), C3 AVSS (power), C5 VSSQ (power), C9 PLLVDDQ (power), D4 VSSQ (power), D7 VDD (power), D9 VDDQ (power), E1 VDDQ (power), E7 VSS (power), F3 VSS (power), F4 VDD (power), F8 VSSQ (power), F9 VDDQ (power), G5 VSSQ (power), G10 VSS (power), G11 VDD (power), H5 VSS (power), H7 VDDQ (power), J1 VDDQ (power), J7 VSSQ (power), K4 VSSQ (power), K12 VDDQ (power), L2 VSSQ (power), L5 VDDQ (power), L6 VDD (power), L12 VSSQ (power), M3 VBATT (power)
part D pins: C1 NC, C7 NC, D3 NC, E12 NC, F2 NC, F5 NC, F10 NC, F12 NC, G9 NC

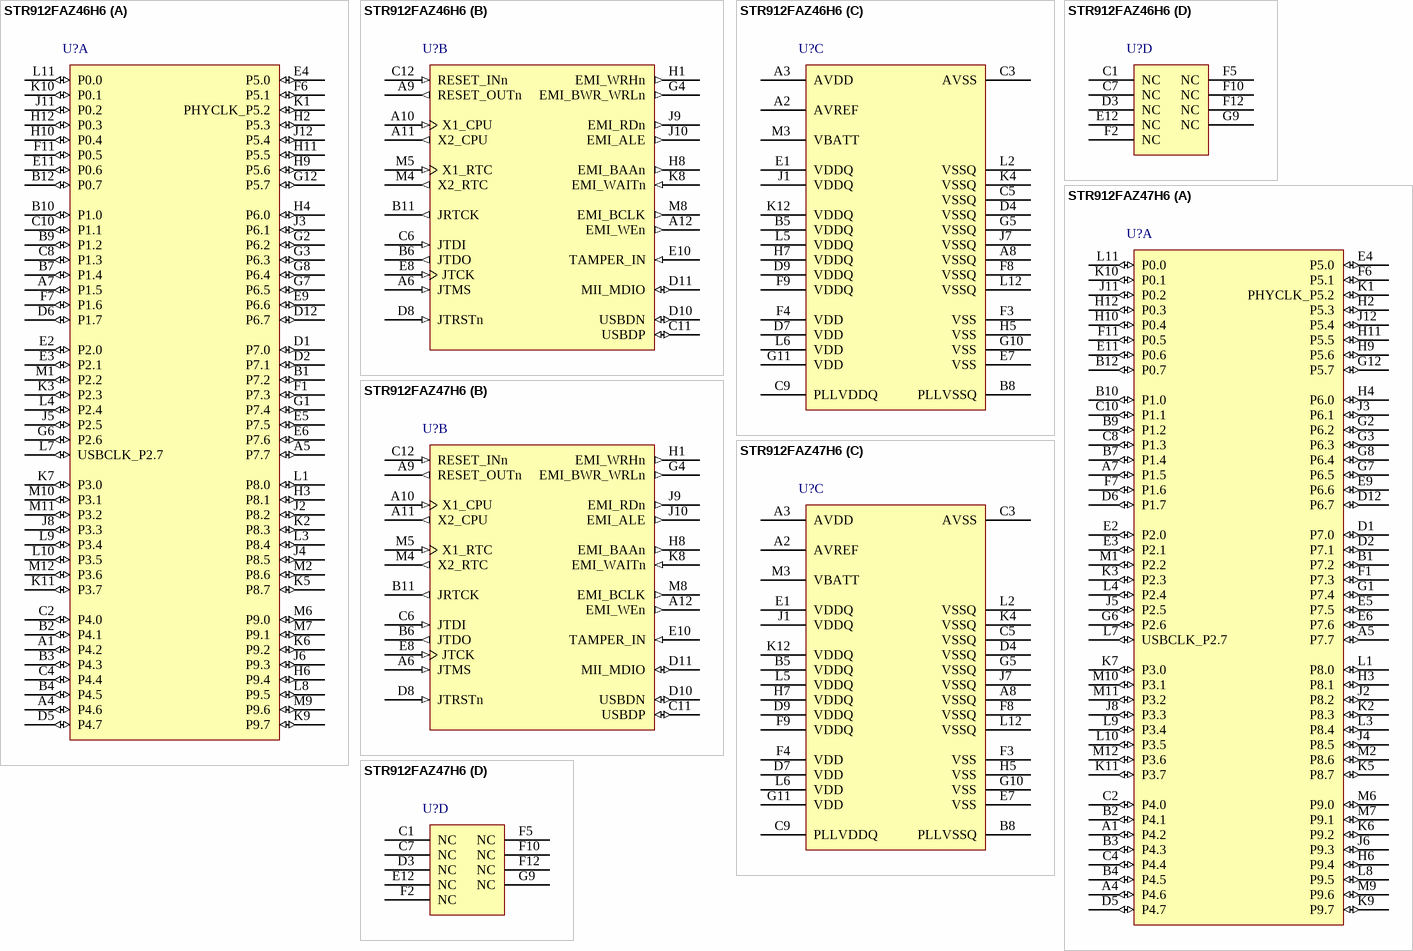
[diagram p5: symbols STR912FAZ46H6 to STR912FAZ47H6]

## STR912FAZ46H6
designator U?
ARM966E-S 16/32-Bit Flash MCU with 1024 + 128 Kbytes Flash, 96 Kbytes RAM, 100-pin LQFP, Industrial Temperature; Published: 30-May-2008; DatasheetVersion: rev2, Apr-2008; PackageVersion: Apr-2008; PackageReference: LFBGA144; Publisher: Altium Limited; PackageDescription: 144-Ball Low Profile Fine Pitch BGA, 10 x 10 x 1.7 mm Body, 0.8 mm Pitch (LFBGA144); ComponentLink1Description: Manufacturer Link; ComponentLink1URL: http://www.st.com/mcu/inchtml-pages-str9.html; ComponentLink2Description: Datasheet; ComponentLink2URL: http://www.st.com/stonline/products/literature/ds/14195.pdf
footprint LFBGA144 (BGA, 144-Leads, Body 10x10mm, Pitch 0.8mm)
part A pins: A1 P4.2 (io), A4 P4.6 (io), A5 P7.7 (io), A7 P1.5 (io), B1 P7.2 (io), B2 P4.1 (io), B3 P4.3 (io), B4 P4.5 (io), B7 P1.4 (io), B9 P1.2 (io), B10 P1.0 (io), B12 P0.7 (io), C2 P4.0 (io), C4 P4.4 (io), C8 P1.3 (io), C10 P1.1 (io), D1 P7.0 (io), D2 P7.1 (io), D5 P4.7 (io), D6 P1.7 (io), D12 P6.7 (io), E2 P2.0 (io), E3 P2.1 (io), E4 P5.0 (io), E5 P7.5 (io), E6 P7.6 (io), E9 P6.6 (io), E11 P0.6 (io), F1 P7.3 (io), F6 P5.1 (io), F7 P1.6 (io), F11 P0.5 (io), G1 P7.4 (io), G2 P6.2 (io), G3 P6.3 (io), G6 P2.6 (io), G7 P6.5 (io), G8 P6.4 (io), G12 P5.7 (io), H2 P5.3 (io), H3 P8.1 (io), H4 P6.0 (io), H6 P9.4 (io), H9 P5.6 (io), H10 P0.4 (io), H11 P5.5 (io), H12 P0.3 (io), J2 P8.2 (io), J3 P6.1 (io), J4 P8.5 (io), J5 P2.5 (io), J6 P9.3 (io), J8 P3.3 (io), J11 P0.2 (io), J12 P5.4 (io), K1 PHYCLK_P5.2 (io), K2 P8.3 (io), K3 P2.3 (io), K5 P8.7 (io), K6 P9.2 (io), K7 P3.0 (io), K9 P9.7 (io), K10 P0.1 (io), K11 P3.7 (io), L1 P8.0 (io), L3 P8.4 (io), L4 P2.4 (io), L7 USBCLK_P2.7 (io), L8 P9.5 (io), L9 P3.4 (io), L10 P3.5 (io), L11 P0.0 (io), M1 P2.2 (io), M2 P8.6 (io), M6 P9.0 (io), M7 P9.1 (io), M9 P9.6 (io), M10 P3.1 (io), M11 P3.2 (io), M12 P3.6 (io)
part B pins: A6 JTMS (in), A9 RESET_OUTn (out), A10 X1_CPU (in), A11 X2_CPU (out), A12 EMI_WEn (out), B6 JTDO (out), B11 JRTCK (out), C6 JTDI (in), C11 USBDP (io), C12 RESET_INn (in), D8 JTRSTn (in), D10 USBDN (io), D11 MII_MDIO (io), E8 JTCK (in), E10 TAMPER_IN (in), G4 EMI_BWR_WRLn (out), H1 EMI_WRHn (out), H8 EMI_BAAn (out), J9 EMI_RDn (out), J10 EMI_ALE (out), K8 EMI_WAITn (in), M4 X2_RTC (out), M5 X1_RTC (in), M8 EMI_BCLK (out)
part C pins: A2 AVREF (power), A3 AVDD (power), A8 VSSQ (power), B5 VDDQ (power), B8 PLLVSSQ (power), C3 AVSS (power), C5 VSSQ (power), C9 PLLVDDQ (power), D4 VSSQ (power), D7 VDD (power), D9 VDDQ (power), E1 VDDQ (power), E7 VSS (power), F3 VSS (power), F4 VDD (power), F8 VSSQ (power), F9 VDDQ (power), G5 VSSQ (power), G10 VSS (power), G11 VDD (power), H5 VSS (power), H7 VDDQ (power), J1 VDDQ (power), J7 VSSQ (power), K4 VSSQ (power), K12 VDDQ (power), L2 VSSQ (power), L5 VDDQ (power), L6 VDD (power), L12 VSSQ (power), M3 VBATT (power)
part D pins: C1 NC, C7 NC, D3 NC, E12 NC, F2 NC, F5 NC, F10 NC, F12 NC, G9 NC

## STR912FAZ47H6
designator U?
ARM966E-S 16/32-Bit Flash MCU with 2048 + 128 Kbytes Flash, 96 Kbytes RAM, 100-pin LQFP, Industrial Temperature; Published: 30-May-2008; DatasheetVersion: rev2, Apr-2008; PackageVersion: Apr-2008; PackageReference: LFBGA144; Publisher: Altium Limited; PackageDescription: 144-Ball Low Profile Fine Pitch BGA, 10 x 10 x 1.7 mm Body, 0.8 mm Pitch (LFBGA144); ComponentLink1Description: Manufacturer Link; ComponentLink1URL: http://www.st.com/mcu/inchtml-pages-str9.html; ComponentLink2Description: Datasheet; ComponentLink2URL: http://www.st.com/stonline/products/literature/ds/14195.pdf
footprint LFBGA144 (BGA, 144-Leads, Body 10x10mm, Pitch 0.8mm)
part A pins: A1 P4.2 (io), A4 P4.6 (io), A5 P7.7 (io), A7 P1.5 (io), B1 P7.2 (io), B2 P4.1 (io), B3 P4.3 (io), B4 P4.5 (io), B7 P1.4 (io), B9 P1.2 (io), B10 P1.0 (io), B12 P0.7 (io), C2 P4.0 (io), C4 P4.4 (io), C8 P1.3 (io), C10 P1.1 (io), D1 P7.0 (io), D2 P7.1 (io), D5 P4.7 (io), D6 P1.7 (io), D12 P6.7 (io), E2 P2.0 (io), E3 P2.1 (io), E4 P5.0 (io), E5 P7.5 (io), E6 P7.6 (io), E9 P6.6 (io), E11 P0.6 (io), F1 P7.3 (io), F6 P5.1 (io), F7 P1.6 (io), F11 P0.5 (io), G1 P7.4 (io), G2 P6.2 (io), G3 P6.3 (io), G6 P2.6 (io), G7 P6.5 (io), G8 P6.4 (io), G12 P5.7 (io), H2 P5.3 (io), H3 P8.1 (io), H4 P6.0 (io), H6 P9.4 (io), H9 P5.6 (io), H10 P0.4 (io), H11 P5.5 (io), H12 P0.3 (io), J2 P8.2 (io), J3 P6.1 (io), J4 P8.5 (io), J5 P2.5 (io), J6 P9.3 (io), J8 P3.3 (io), J11 P0.2 (io), J12 P5.4 (io), K1 PHYCLK_P5.2 (io), K2 P8.3 (io), K3 P2.3 (io), K5 P8.7 (io), K6 P9.2 (io), K7 P3.0 (io), K9 P9.7 (io), K10 P0.1 (io), K11 P3.7 (io), L1 P8.0 (io), L3 P8.4 (io), L4 P2.4 (io), L7 USBCLK_P2.7 (io), L8 P9.5 (io), L9 P3.4 (io), L10 P3.5 (io), L11 P0.0 (io), M1 P2.2 (io), M2 P8.6 (io), M6 P9.0 (io), M7 P9.1 (io), M9 P9.6 (io), M10 P3.1 (io), M11 P3.2 (io), M12 P3.6 (io)
part B pins: A6 JTMS (in), A9 RESET_OUTn (out), A10 X1_CPU (in), A11 X2_CPU (out), A12 EMI_WEn (out), B6 JTDO (out), B11 JRTCK (out), C6 JTDI (in), C11 USBDP (io), C12 RESET_INn (in), D8 JTRSTn (in), D10 USBDN (io), D11 MII_MDIO (io), E8 JTCK (in), E10 TAMPER_IN (in), G4 EMI_BWR_WRLn (out), H1 EMI_WRHn (out), H8 EMI_BAAn (out), J9 EMI_RDn (out), J10 EMI_ALE (out), K8 EMI_WAITn (in), M4 X2_RTC (out), M5 X1_RTC (in), M8 EMI_BCLK (out)
part C pins: A2 AVREF (power), A3 AVDD (power), A8 VSSQ (power), B5 VDDQ (power), B8 PLLVSSQ (power), C3 AVSS (power), C5 VSSQ (power), C9 PLLVDDQ (power), D4 VSSQ (power), D7 VDD (power), D9 VDDQ (power), E1 VDDQ (power), E7 VSS (power), F3 VSS (power), F4 VDD (power), F8 VSSQ (power), F9 VDDQ (power), G5 VSSQ (power), G10 VSS (power), G11 VDD (power), H5 VSS (power), H7 VDDQ (power), J1 VDDQ (power), J7 VSSQ (power), K4 VSSQ (power), K12 VDDQ (power), L2 VSSQ (power), L5 VDDQ (power), L6 VDD (power), L12 VSSQ (power), M3 VBATT (power)
part D pins: C1 NC, C7 NC, D3 NC, E12 NC, F2 NC, F5 NC, F10 NC, F12 NC, G9 NC